# Altium integrated library balenaFin_v1_x_x.IntLib: 123 symbols (part 1 of 2)
Pins are listed as number, name and electrical type; pins without a type are passive.

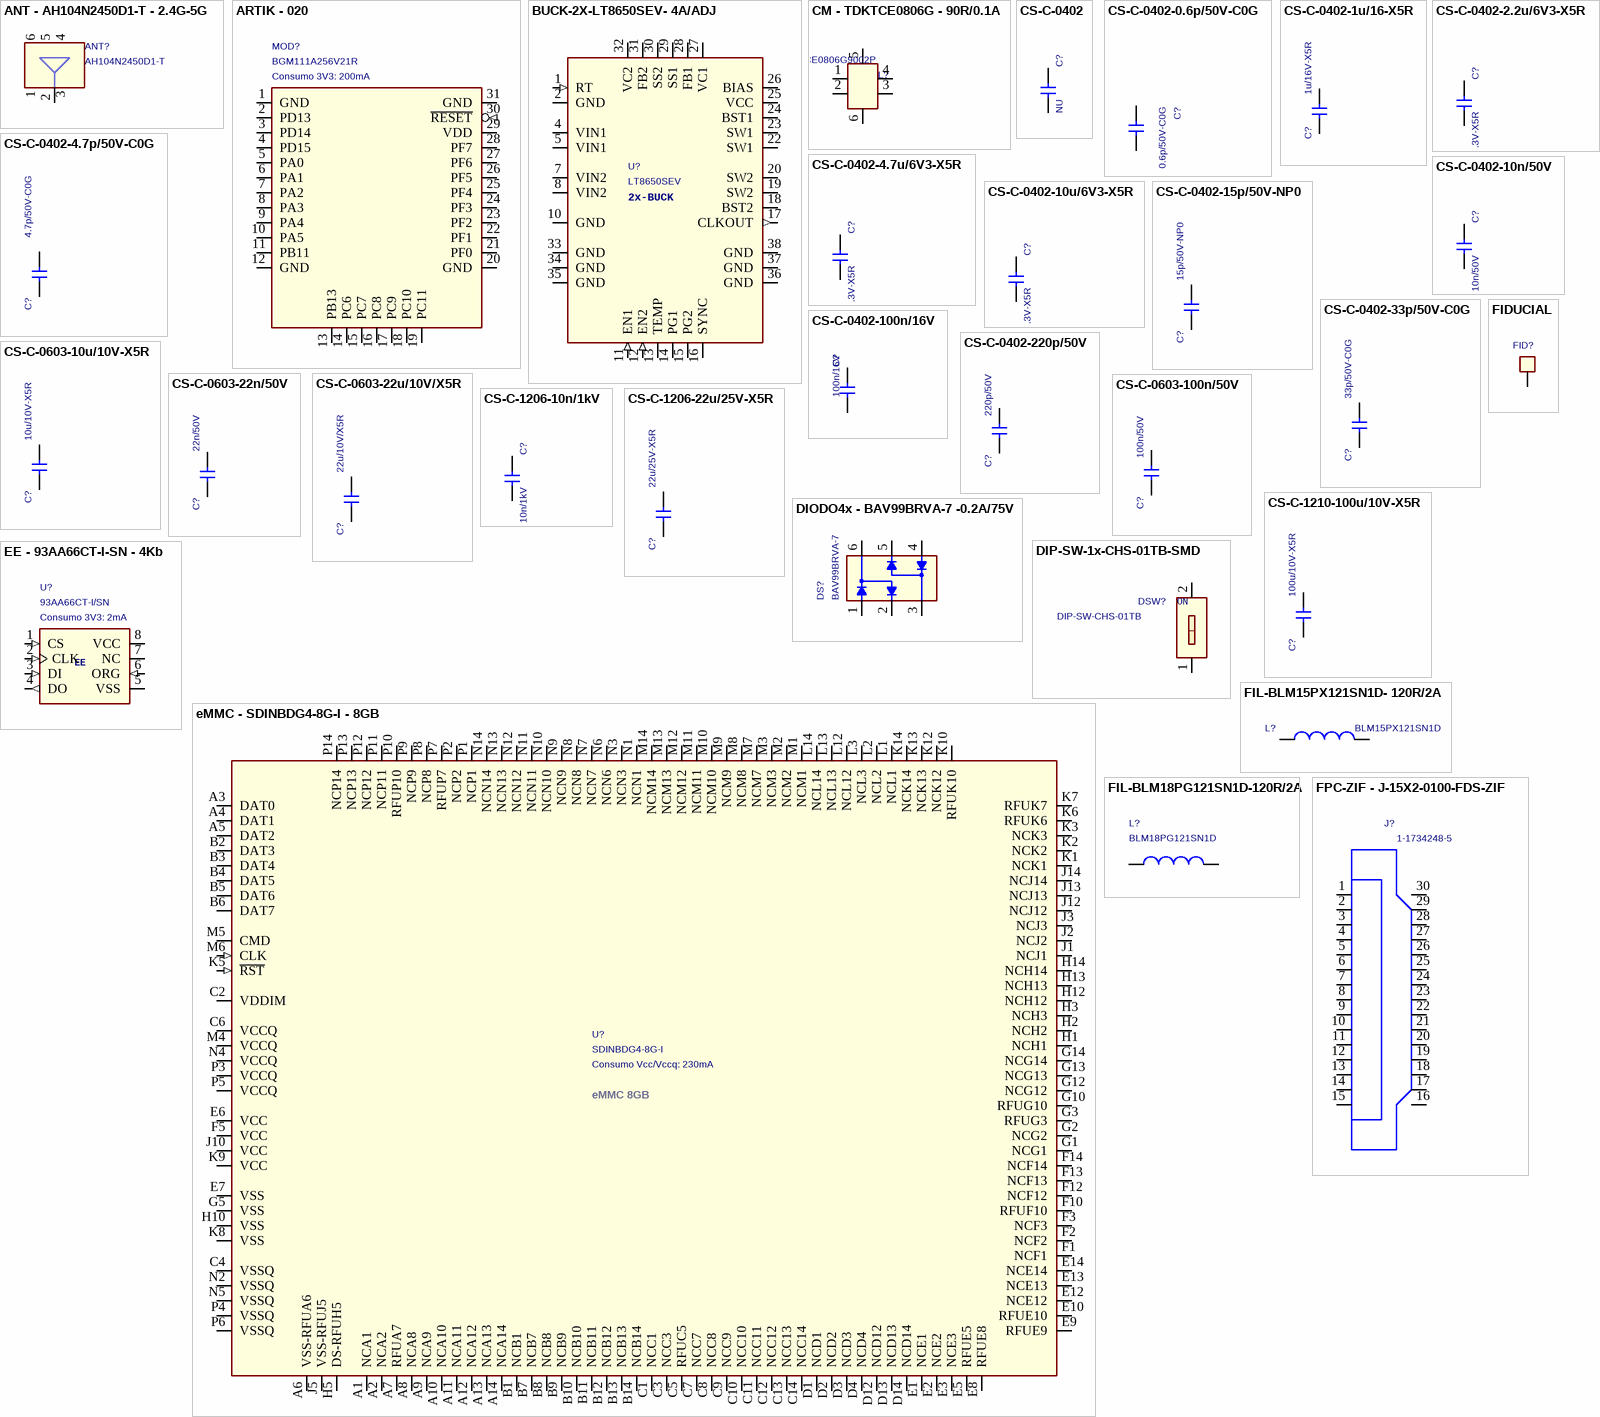
[diagram p0: symbols ANT - AH104N2450D1-T - 2.4G-5G to FPC-ZIF - J-15X2-0100-FDS-ZIF]

## ANT - AH104N2450D1-T - 2.4G-5G
designator ANT?, comment AH104N2450D1-T
ANTENNA CHIP DUAL 2.4GHZ - 5GHz D=10X4 AH104N2450D1-T TAIYO YUDEN SMT; Database: 41701; Temp Range: -40°..+85°; Pkg Type: SMD; Famiglia: INDUTTORE; Modello: ANTENNA WLAN; ROOM: WIFI-BLUETOOTH; Price Distributor Cad: 0,65; Distributor: FAE; Caratteristiche: 2.4GHz-5GHz
footprint ANT-AH104N
pins: 1, 2, 3, 4, 5, 6

## ARTIK - 020
designator MOD?, comment BGM111A256V21R  Consumo: Consumo 3V3: 200mA
MODULO BLUETOOTH SMART BGM111A256V21R SILICON LABS SMT; Modello: MCU; Note: PU_GPIO=100k - VIH=VDDx0.7 - VIL=VDDx0.3 - VOH=VDDx0.6 - VOL=VDDx0.4; Caratteristiche: BGM111; Database: 44492; Temp Range: -40°..+85°; Pkg Type: SMD; ROOM: ARTIK 020; Famiglia: MODULO; Price Distributor Cad: 4; Distributor: FAE
footprint MOD-ARTIK-020
pins: 1 GND (power), 2 PD13 (io), 3 PD14 (io), 4 PD15 (io), 5 PA0 (io), 6 PA1 (io), 7 PA2 (io), 8 PA3 (io), 9 PA4 (io), 10 PA5 (io), 11 PB11 (io), 12 GND (power), 13 PB13 (io), 14 PC6 (io), 15 PC7 (io), 16 PC8 (io), 17 PC9 (io), 18 PC10 (io), 19 PC11 (io), 20 GND (power), 21 PF0 (io), 22 PF1 (io), 23 PF2 (io), 24 PF3 (io), 25 PF4 (io), 26 PF5 (io), 27 PF6 (io), 28 PF7 (io), 29 VDD (power), 30 ~{RESET} (in), 31 GND (power)

## BUCK-2X-LT8650SEV- 4A/ADJ
designator U?, comment LT8650SEV
INTEGRATO LT8650SEV#PBF LINEAR LQFN32 SMT; Database: 41707; Temp Range: -40°..+125°; Pkg Type: SMD; Caratteristiche: 4A/ADJ; Note: 300kHz - 3MHz - VIN=3V - 42V; Modello: BUCK-2X; ROOM: POWER 5V-3V3; Price Distributor Cad: 4,33; Distributor: FAE; Famiglia: INTEGRATO
footprint IC-LT8650SEV
pins: 1 RT (in), 2 GND (power), 4 VIN1 (power), 5 VIN1 (power), 7 VIN2 (power), 8 VIN2 (power), 10 GND (power), 11 EN1 (in), 12 EN2 (in), 13 TEMP, 14 PG1 (oc), 15 PG2 (oc), 16 SYNC, 17 CLKOUT (out), 18 BST2, 19 SW2 (power), 20 SW2 (power), 22 SW1 (power), 23 SW1 (power), 24 BST1, 25 VCC, 26 BIAS, 27 VC1, 28 FB1, 29 SS1, 30 SS2, 31 FB2, 32 VC2, 33 GND (power), 34 GND (power), 35 GND (power), 36 GND (power), 37 GND (power), 38 GND (power)
text: 2x-BUCK

## CM - TDKTCE0806G - 90R/0.1A
designator L?, comment TCE0806G9002P
FILTRO 90R 0.1A 25% D=0.85x0.65 TCE0806G-900-2P-T200 TDK SMT; Famiglia: INDUTTORE; Caratteristiche: 100mA; Note: ESD Protection Inside; Modello: CM-CHOKE; Pkg Type: SMD; Database: 37690; ROOM: CAMERA CSI; Distributor: FAE; Price Distributor Cad: 0,37
footprint LS-TDKTCE0806G
pins: 1, 2, 3, 4, 5 (power), 6 (power)

## CS-C-0402
designator C?, comment NU
Condensatore 0402; Modello: CERAMICO; Pkg Type: SMD; Famiglia: CONDENSATORE
footprint CS-C-0402
pins: 1, 2

## CS-C-0402-0.6p/50V-C0G
designator C?, comment 0.6p/50V-C0G
CHIP CAP.CER. 0.6pF 50V ±0.1pF C0G 0402; ROOM: WIFI-BLUETOOTH; Pkg Type: SMD; Temp Range: -55°..+125°; Database: 41047; Modello: CERAMICO; Note: RF; Famiglia: CONDENSATORE; Price Distributor Cad: 0,0066; Distributor: FAE; Caratteristiche: C0G
footprint CS-C-0402
pins: 1, 2

## CS-C-0402-1u/16-X5R
designator C?, comment 1u/16V-X5R
CHIP CAP.CER. 1uF 16V 10% X5R 0402; Database: 37485; Pkg Type: SMD; Modello: CERAMICO; Famiglia: CONDENSATORE; ROOM: POWER 1V5; Distributor: FAE; Price Distributor Cad: 0,0016; Caratteristiche: X5R
footprint CS-C-0402
pins: 1, 2

## CS-C-0402-2.2u/6V3-X5R
designator C?, comment 2.2u/6.3V-X5R
CHIP CAP.CER. 2.2uF 6.3V 20% X5R 0402; ROOM: eMMC; Database: 32467; Pkg Type: SMD; Modello: CERAMICO; Famiglia: CONDENSATORE; Distributor: FAE; Price Distributor Cad: 0,0035; Caratteristiche: X5R
footprint CS-C-0402
pins: 1, 2

## CS-C-0402-4.7p/50V-C0G
designator C?, comment 4.7p/50V-C0G
CHIP CAP.CER. 4.7pF 50V 5% C0G 0402; Famiglia: CONDENSATORE; Modello: CERAMICO; Database: 41702; Temp Range: -55°..+125°; Pkg Type: SMD; ROOM: POWER 5V-3V3; Caratteristiche: C0G; Distributor: FAE; Price Distributor Cad: 0,0025
footprint CS-C-0402
pins: 1, 2

## CS-C-0402-4.7u/6V3-X5R
designator C?, comment 4.7u/6.3V-X5R
CHIP CAP.CER. 4.7uF 6.3V 20% X5R 0402; Database: 32468; Pkg Type: SMD; Modello: CERAMICO; Famiglia: CONDENSATORE; ROOM: ETHERNET+HUB USB; Distributor: FAE; Price Distributor Cad: 0,01; Caratteristiche: X5R
footprint CS-C-0402
pins: 1, 2

## CS-C-0402-10n/50V
designator C?, comment 10n/50V
CHIP CAP.CER. 10nF 50V 10% X7R 0402; ROOM: CM3L; Pkg Type: SMD; Database: 21365; Modello: CERAMICO; Famiglia: CONDENSATORE; Price Distributor Cad: 0,001; Distributor: FAE; Caratteristiche: X7R
footprint CS-C-0402
pins: 1, 2

## CS-C-0402-10u/6V3-X5R
designator C?, comment 10u/6.3V-X5R
CHIP CAP.CER. 10uF 6.3V 20% X5R 0402; Database: 39310; Temp Range: -55°..+85°; Pkg Type: SMD; Modello: CERAMICO; Famiglia: CONDENSATORE; ROOM: CM3L; Distributor: FAE; Price Distributor Cad: 0,0141; Caratteristiche: X5R
footprint CS-C-0402
pins: 1, 2

## CS-C-0402-15p/50V-NP0
designator C?, comment 15p/50V-NP0
CHIP CAP.CER. 15pF 50V 5% NPO 0402; Famiglia: CONDENSATORE; Caratteristiche: NP0; Modello: CERAMICO; Database: 25120; Pkg Type: SMD; ROOM: ETHERNET+HUB USB; Distributor: FAE; Price Distributor Cad: 0,0018
footprint CS-C-0402
pins: 1, 2

## CS-C-0402-33p/50V-C0G
designator C?, comment 33p/50V-C0G
CHIP CAP.CER. 33pF 50V 5% C0G 0402; ROOM: NANO-SIM; Pkg Type: SMD; Database: 38594; Modello: CERAMICO; Famiglia: CONDENSATORE; Price Distributor Cad: 0,0018; Distributor: FAE; Caratteristiche: C0G
footprint CS-C-0402
pins: 1, 2

## CS-C-0402-100n/16V
designator C?, comment 100n/16V
CHIP CAP.CER. 100nF 16V 10% X7R 0402; ROOM: HDMI; Pkg Type: SMD; Database: 22452; Modello: CERAMICO; Famiglia: CONDENSATORE; Price Distributor Cad: 0,001; Distributor: FAE; Caratteristiche: X7R
footprint CS-C-0402
pins: 1, 2

## CS-C-0402-220p/50V
designator C?, comment 220p/50V
CHIP CAP.CER. 220pF 50V 10% X7R 0402; ROOM: POWER 5V-3V3; Pkg Type: SMD; Database: 27827; Modello: CERAMICO; Famiglia: CONDENSATORE; Price Distributor Cad: 0,0012; Distributor: FAE; Caratteristiche: X7R
footprint CS-C-0402
pins: 1, 2

## CS-C-0603-10u/10V-X5R
designator C?, comment 10u/10V-X5R
CHIP CAP.CER. 10uF 10V 10% X5R 0603; Famiglia: CONDENSATORE; Modello: CERAMICO; Database: 28168; Pkg Type: SMD; ROOM: CONNETTORE HAT; Caratteristiche: X5R; Distributor: FAE; Price Distributor Cad: 0,0151
footprint CS-C-0603
pins: 1, 2

## CS-C-0603-22n/50V
designator C?, comment 22n/50V
CHIP CAP.CER. 22nF 50V 10% X7R 0603; ROOM: ETHERNET+HUB USB; Famiglia: CONDENSATORE; Modello: CERAMICO; Database: 25087; Pkg Type: SMD; Caratteristiche: X7R; Distributor: FAE; Price Distributor Cad: 0,0017
footprint CS-C-0603
pins: 1, 2

## CS-C-0603-22u/10V/X5R
designator C?, comment 22u/10V/X5R
CHIP CAP.CER. 22uF 10V 20% X5R 0603; Famiglia: CONDENSATORE; Modello: CERAMICO; Database: 40369; Temp Range: -55°..+85°; Pkg Type: SMD; ROOM: POWER 5V-3V3; Caratteristiche: X5R; Distributor: FAE; Price Distributor Cad: 0,027
footprint CS-C-0603
pins: 1, 2

## CS-C-0603-100n/50V
designator C?, comment 100n/50V
CHIP CAP.CER. 100nF 50V 10% X7R 0603; ROOM: POWER 5V-3V3; Database: 18108; Pkg Type: SMD; Modello: CERAMICO; Famiglia: CONDENSATORE; Distributor: FAE; Price Distributor Cad: 0,01; Caratteristiche: X7R
footprint CS-C-0603
pins: 1, 2

## CS-C-1206-10n/1kV
designator C?, comment 10n/1kV
CHIP CAP.CER. 10nF 1000V 10% X7R 1206; ROOM: HDMI; Database: 28470; Pkg Type: SMD; Modello: CERAMICO; Famiglia: CONDENSATORE; Distributor: FAE; Price Distributor Cad: 0,035; Caratteristiche: X7R
footprint CS-C-1206
pins: 1, 2

## CS-C-1206-22u/25V-X5R
designator C?, comment 22u/25V-X5R
CHIP CAP.CER. 22uF 25V 10% X5R 1206; ROOM: POWER 5V-3V3; Famiglia: CONDENSATORE; Modello: CERAMICO; Pkg Type: SMD; Temp Range: -55°..+85°; Database: 30650; Caratteristiche: X5R; Price Distributor Cad: 0,073; Distributor: FAE
footprint CS-C-1206
pins: 1, 2

## CS-C-1210-100u/10V-X5R
designator C?, comment 100u/10V-X5R
CHIP CAP.CER. 100UF 10V 20% X5R 1210; Pkg Type: SMD; Database: 30999; Modello: CERAMICO; Famiglia: CONDENSATORE; ROOM: USB HOST 1; Price Distributor Cad: 0,27; Distributor: FAE; Caratteristiche: X5R
footprint CS-C-1210
pins: 1, 2

## DIODO4x - BAV99BRVA-7 -0.2A/75V
designator DS?, comment BAV99BRVA-7
DIODO ARRAY 0.2A 75V BAV99BRVA-7 SOT563 DIODES SMT; ROOM: DISPLAY DSI; Modello: GENERICO; Note: 2x Serie; Caratteristiche: 4x; Pkg Type: SMD; Temp Range: -65°..+150°; Database: 40591; Famiglia: DIODO; Distributor: FAE; Price Distributor Cad: 0,044
footprint SOT563
pins: 1 A1, 2 C1, 3 AC2, 4 A2, 5 C2, 6 AC1

## DIP-SW-1x-CHS-01TB-SMD
designator DSW?, comment DIP-SW-CHS-01TB
DIP SWITCH 1P/D NERO CHS-01TB COPAL SMT; Database: 33083; Temp Range: -40°..+85°; Pkg Type: SMD; Caratteristiche: 1P; Modello: DIP-SWITCH; ROOM: WIFI-BLUETOOTH; Price Distributor Cad: 0,345; Distributor: FAE; Famiglia: SWITCH
footprint DSS-CHS-01TB
pins: 1, 2
text: ON

## EE - 93AA66CT-I-SN - 4Kb
designator U?, comment 93AA66CT-I/SN  Consumo: Consumo 3V3: 2mA
INTEGRATO 93AA66CT-I/SN SOIC8 MICROCHIP SMT; Pkg Type: SMD; Temp Range: -40°..+85°; Database: 40297; Modello: EEPROM -uWIRE; Note: VIH=2V - VIL=0.8V - VOL=0.4; Caratteristiche: 4kbit; ROOM: ETHERNET+HUB USB; Distributor: FAE; Price Distributor Cad: 0,095; Famiglia: INTEGRATO
footprint SOIC8
pins: 1 CS (in), 2 CLK (in), 3 DI (in), 4 DO (out), 5 VSS (power), 6 ORG (in), 7 NC, 8 VCC (power)
text: EE

## eMMC - SDINBDG4-8G-I - 8GB
designator U?, comment SDINBDG4-8G-I  Consumo: Consumo Vcc/Vccq: 230mA
INTEGRATO SDINBDG4-8G SANDISK VFBGA153 SMT; Caratteristiche: 8Gbit; Database: 41705; Modello: eMMC; Note: Standard 5.1 - VCC=2.7V-3.6V - VCCQ=1.7V-1.95V/2.7V-3.6V; Pkg Type: SMD; Temp Range: -25°..+85°; Distributor: FAE; Famiglia: INTEGRATO; Price Distributor Cad: 4,24; ROOM: eMMC
footprint VFBGA153
pins: A1 NCA1, A2 NCA2, A3 DAT0 (io), A4 DAT1 (io), A5 DAT2 (io), A6 VSS-RFUA6, A7 RFUA7, A8 NCA8, A9 NCA9, A10 NCA10, A11 NCA11, A12 NCA12, A13 NCA13, A14 NCA14, B1 NCB1, B2 DAT3 (io), B3 DAT4 (io), B4 DAT5 (io), B5 DAT6 (io), B6 DAT7 (io), B7 NCB7, B8 NCB8, B9 NCB9, B10 NCB10, B11 NCB11, B12 NCB12, B13 NCB13, B14 NCB14, C1 NCC1, C2 VDDIM, C3 NCC3, C4 VSSQ (power), C5 RFUC5, C6 VCCQ (power), C7 NCC7, C8 NCC8, C9 NCC9, C10 NCC10, C11 NCC11, C12 NCC12, C13 NCC13, C14 NCC14, D1 NCD1, D2 NCD2, D3 NCD3, D4 NCD4, D12 NCD12, D13 NCD13, D14 NCD14, E1 NCE1, E2 NCE2, E3 NCE3, E5 RFUE5, E6 VCC (power), E7 VSS (power), E8 RFUE8, E9 RFUE9, E10 RFUE10, E12 NCE12, E13 NCE13, E14 NCE14, F1 NCF1, F2 NCF2, F3 NCF3, F5 VCC (power), F10 RFUF10, F12 NCF12, F13 NCF13, F14 NCF14, G1 NCG1, G2 NCG2, G3 RFUG3, G5 VSS (power), G10 RFUG10, G12 NCG12, G13 NCG13, G14 NCG14, H1 NCH1, H2 NCH2, H3 NCH3, H5 DS-RFUH5, H10 VSS (power), H12 NCH12, H13 NCH13, H14 NCH14, J1 NCJ1, J2 NCJ2, J3 NCJ3, J5 VSS-RFUJ5, J10 VCC (power), J12 NCJ12, J13 NCJ13, J14 NCJ14, K1 NCK1, K2 NCK2, K3 NCK3, K5 ~{RST} (in), K6 RFUK6, K7 RFUK7, K8 VSS (power), K9 VCC (power), K10 RFUK10, K12 NCK12, K13 NCK13, K14 NCK14, L1 NCL1, L2 NCL2, L3 NCL3, L12 NCL12, L13 NCL13, L14 NCL14, M1 NCM1, M2 NCM2, M3 NCM3, M4 VCCQ (power), M5 CMD (io), M6 CLK (in), M7 NCM7, M8 NCM8, M9 NCM9, M10 NCM10, M11 NCM11, M12 NCM12, M13 NCM13, M14 NCM14, N1 NCN1, N2 VSSQ (power), N3 NCN3, N4 VCCQ (power), N5 VSSQ (power), N6 NCN6, N7 NCN7, N8 NCN8, N9 NCN9, N10 NCN10, N11 NCN11, N12 NCN12, N13 NCN13, N14 NCN14, P1 NCP1, P2 NCP2, P3 VCCQ (power), P4 VSSQ (power), P5 VCCQ (power), P6 VSSQ (power), P7 RFUP7, P8 NCP8, P9 NCP9, P10 RFUP10, P11 NCP11, P12 NCP12, P13 NCP13, P14 NCP14
text: eMMC 8GB

## FIDUCIAL
designator FID?, comment TPS  (value not drawn)
FIDUCIAL; Pkg Type: SMD; Distributor: FAE
footprint FIDUCIAL
pins: 1 TP

## FIL-BLM15PX121SN1D- 120R/2A
designator L?, comment BLM15PX121SN1D
FERRITE 120R 2A 25% 0402 BLM15PX121SN1D MURATA SMT; ROOM: HDMI; Pkg Type: SMD; Temp Range: -55°..+125°; Database: 39322; Caratteristiche: 120R/2A; Famiglia: INDUTTORE; Distributor: FAE; Price Distributor Cad: 0,0067; Modello: FERRITE
footprint LS-0402
pins: 1, 2

## FIL-BLM18PG121SN1D-120R/2A
designator L?, comment BLM18PG121SN1D
FILTRO 120R 2A 25% 0603 BLM18PG121SN1D MURATA SMT; Pkg Type: SMD; Database: 22205; Modello: FERRITE; Caratteristiche: 120R/2A; Famiglia: INDUTTORE; ROOM: ETHERNET+HUB USB; Distributor: FAE; Price Distributor Cad: 0,0055
footprint LS-0603
pins: 1, 2

## FPC-ZIF - J-15X2-0100-FDS-ZIF
designator J?, comment 1-1734248-5
CONN. FPC 30P DOPPIA FILA F/D 1-1734248-5 P=1 TE SMT; Database: 41048; Temp Range: -20°..+85°; Pkg Type: SMD; Famiglia: CONNETTORE; Caratteristiche: 15x2P; Modello: FPC-ZIF; ROOM: CAMERA CSI; Price Distributor Cad: 0,315; Distributor: FAE
footprint J-15X2-0100-FDS-ZIF
pins: 1, 2, 3, 4, 5, 6, 7, 8, 9, 10, 11, 12, 13, 14, 15, 16, 17, 18, 19, 20, 21, 22, 23, 24, 25, 26, 27, 28, 29, 30

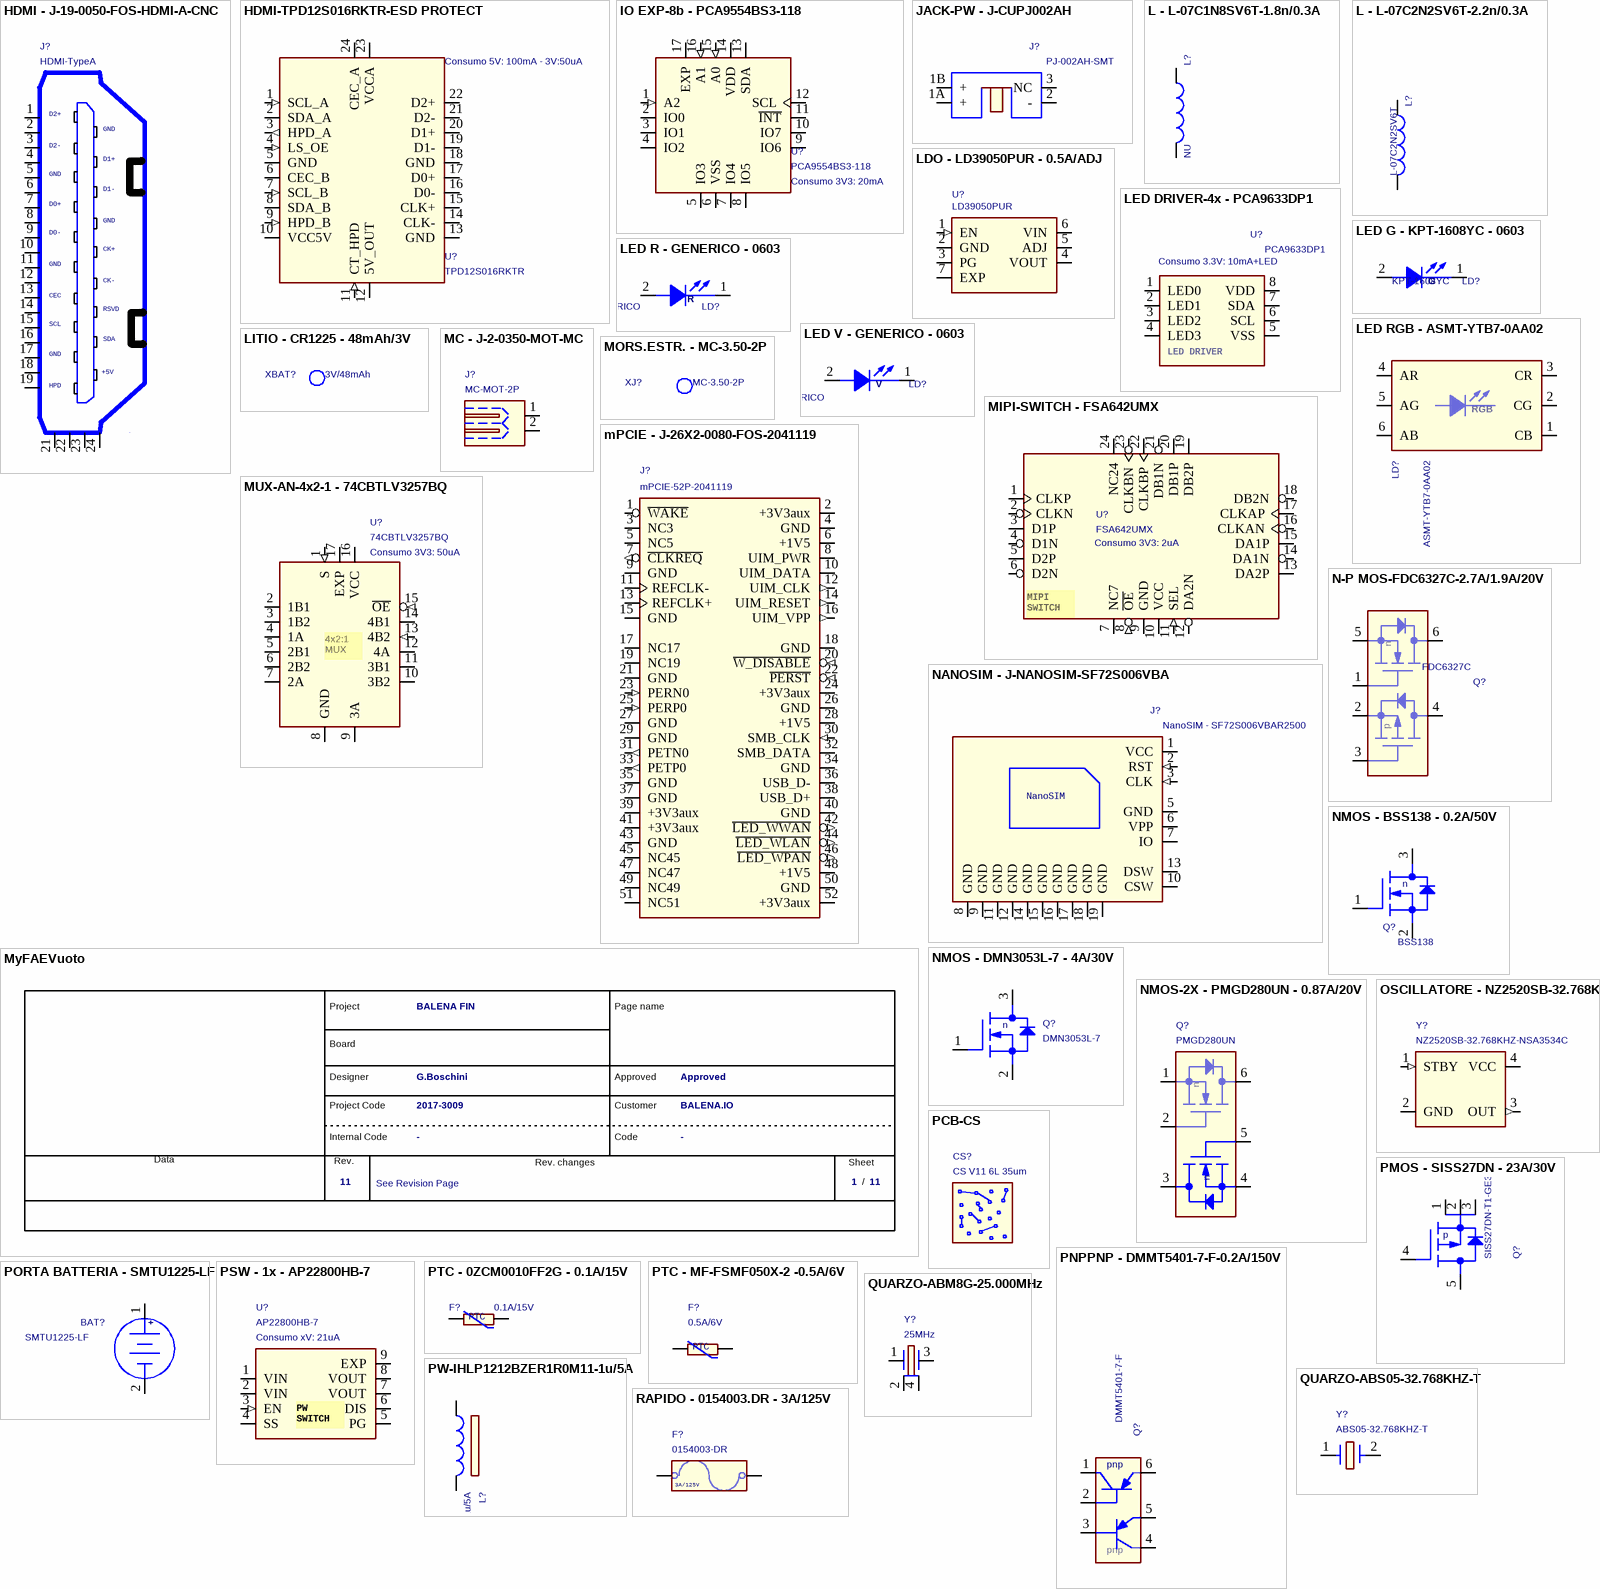
[diagram p1: symbols HDMI - J-19-0050-FOS-HDMI-A-CNC to RAPIDO - 0154003.DR - 3A/125V]

## HDMI - J-19-0050-FOS-HDMI-A-CNC
designator J?, comment HDMI-TypeA
CONN. HDMI 19P F/90° 2000-1-2-41-00-BK CNC TECH SMT; Note: Full SMD; Caratteristiche: TYPE-A; Famiglia: CONNETTORE; Pkg Type: SMD; Temp Range: -20°..+85°; Database: 41703; ROOM: HDMI; Modello: HDMI; Distributor: FAE; Price Distributor Cad: 0,608
footprint J-19-0050-FOS-HDMI-A-CNCTECH
pins: 1 D2+, 2 GND_2 (power), 3 D2-, 4 D1+, 5 GND_5 (power), 6 D1-, 7 D0+, 8 GND_8 (power), 9 D0-, 10 CK+, 11 GND_11 (power), 12 CK-, 13 CEC, 14 RES, 15 SCL, 16 SDA, 17 GND_17 (power), 18 +5V (power), 19 HDP, 21 GND_21 (power), 22 GND_22 (power), 23 GND_23 (power), 24 GND_24 (power)
text: GND; RSVD; HPD

## HDMI-TPD12S016RKTR-ESD PROTECT
designator U?, comment TPD12S016RKTR  Consumo: Consumo 5V: 100mA - 3V:50uA
INTEGRATO TPD12S016RKTR TEXAS UQFN24 SMT; ROOM: HDMI; Modello: HDMI-ESD; Database: 39340; Temp Range: -40° - +85°; Pkg Type: SMD; Famiglia: INTEGRATO; Price Distributor Cad: 0,458; Distributor: FAE
footprint UFQFN24-4X2
pins: 1 SCL_A (in), 2 SDA_A (io), 3 HPD_A (out), 4 LS_OE (in), 5 GND (power), 6 CEC_B (io), 7 SCL_B (in), 8 SDA_B (io), 9 HPD_B (in), 10 VCC5V (power), 11 CT_HPD (in), 12 5V_OUT (power), 13 GND (power), 14 CLK-, 15 CLK+, 16 D0-, 17 D0+, 18 GND (power), 19 D1-, 20 D1+, 21 D2-, 22 D2+, 23 VCCA (power), 24 CEC_A (io)

## IO EXP-8b - PCA9554BS3-118
designator U?, comment PCA9554BS3-118  Consumo: Consumo 3V3: 20mA
INTEGRATO PCA9554BS3-118 VFQFN16 NXP SMT; ROOM: IO-EXPANDER; Note: Full Bidirectional; Caratteristiche: 8x; Pkg Type: SMD; Temp Range: -40°..+85°; Database: 38904; Modello: IO-EXPANDER; Famiglia: INTEGRATO; Distributor: FAE; Price Distributor Cad: 0,405
footprint QFN16-EXP-3X3
pins: 1 A2 (in), 2 IO0 (io), 3 IO1 (io), 4 IO2 (io), 5 IO3 (io), 6 VSS (power), 7 IO4 (io), 8 IO5 (io), 9 IO6 (io), 10 IO7 (io), 11 ~{INT} (oc), 12 SCL (oc), 13 SDA (oc), 14 VDD (power), 15 A0 (in), 16 A1 (in), 17 EXP (power)

## JACK-PW - J-CUPJ002AH
designator J?, comment PJ-002AH-SMT
CONN. POWER JACK F/90° PJ-002AH-SMT-TR CUI SMT; Database: 35714; Pkg Type: SMD; Famiglia: CONNETTORE; Caratteristiche: ID=2.1mm OD=5.5mm; ROOM: POWER IN; Price Distributor Cad: 0,476; Distributor: FAE; Modello: JACK
footprint J-CUPJ002AH
pins: 1A + (power), 1B + (power), 2 - (power), 3 NC

## L - L-07C1N8SV6T-1.8n/0.3A
designator L?, comment NU
INDUTTANZA 1.8nH 0.3A 14% 0402 L-07C1N8SV6T JOHANSON TECHNOLOGY SMT; Database: 40597; Temp Range: -40°..+100°; Pkg Type: SMD; Famiglia: INDUTTORE; Caratteristiche: 300mA; ROOM: WIFI-BLUETOOTH; Price Distributor Cad: 0,031; Distributor: FAE; Modello: INDUTTANZA
footprint LS-0402
pins: 1 C, 2 A

## L - L-07C2N2SV6T-2.2n/0.3A
designator L?, comment L-07C2N2SV6T
INDUTTANZA 2.2nH 0.3A 14% 0402 L-07C2N2SV6T JOHANSON TECHNOLOGY SMT; Database: 41050; Temp Range: -40°..+100°; Pkg Type: SMD; Famiglia: INDUTTORE; Caratteristiche: 300mA; ROOM: WIFI-BLUETOOTH; Price Distributor Cad: 0,01; Distributor: FAE; Modello: INDUTTANZA
footprint LS-0402
pins: 1 C, 2 A

## LDO - LD39050PUR - 0.5A/ADJ
designator U?, comment LD39050PUR
INTEGRATO LD39050PUR ST DFN6 SMT; Database: 39349; Temp Range: -40°..+125°; Pkg Type: SMD; Caratteristiche: 500mA/ADJ; Modello: LDO; ROOM: POWER 1V8; Price Distributor Cad: 0,295; Distributor: FAE; Famiglia: INTEGRATO
footprint DFN6_3X3_STM-L
pins: 1 EN (in), 2 GND (power), 3 PG, 4 VOUT (power), 5 ADJ, 6 VIN (power), 7 EXP (power)

## LED DRIVER-4x - PCA9633DP1
designator U?, comment PCA9633DP1  Consumo: Consumo 3.3V: 10mA+LED
INTEGRATO PCA9633DP1,118 TSSOP8 NXP SMT; Caratteristiche: 3x; Database: 44009; Modello: LED DRIVER; Note: VCC=2.3V-5.5V - VIH-I2C=0.7*VDD-5.5V; Pkg Type: SMD; Temp Range: -40°..+85°; Distributor: FAE; Famiglia: INTEGRATO; Price Distributor Cad: 0,42
footprint MSOP8
pins: 1 LED0 (oc), 2 LED1 (oc), 3 LED2 (oc), 4 LED3 (oc), 5 VSS (power), 6 SCL (oc), 7 SDA (oc), 8 VDD (power)

## LED G - KPT-1608YC - 0603
designator LD?, comment KPT-1608YC
DIODO LED GIALLO KPT-1608YC KINBRIGHT 0603 SMT; Pkg Type: SMD; Database: 37440; Note: V=2.1v/20mA; ROOM: ETHERNET+HUB USB; Distributor: FAE; Price Distributor Cad: 0,025; Modello: LED; Caratteristiche: GIALLO; Famiglia: DIODO
footprint LD-0603
pins: 1 C, 2 A
text: G

## LED R - GENERICO - 0603
designator LD?, comment GENERICO
DIODO LED ROSSO 0603 SMT; Pkg Type: SMD; Database: 15407; Note: 2V/20mA; ROOM: POWER LED; Distributor: FAE; Price Distributor Cad: 0,025; Modello: LED; Caratteristiche: ROSSO; Famiglia: DIODO
footprint LD-0603
pins: 1 C, 2 A
text: R

## LED RGB - ASMT-YTB7-0AA02
designator LD?, comment ASMT-YTB7-0AA02
DIODO LED RGB ASMT-YTB7-0AA02 AVAGO PLCC6 SMT; ROOM: LED RGB; Note: VFR=2.1V@20mA - VFG=VFB=3.1V@20mA; Pkg Type: SMD; Database: 35119; Modello: LED; Caratteristiche: RGB; Famiglia: DIODO; Distributor: FAE; Price Distributor Cad: 0,2765
footprint LD-PLCC6-GUIDAVLP
pins: 1 CB, 2 CG, 3 CR, 4 AR, 5 AG, 6 AB

## LED V - GENERICO - 0603
designator LD?, comment GENERICO
DIODO LED VERDE 0603 SMT; Pkg Type: SMD; Database: 27046; Note: V=2.2V/20mA; ROOM: CM3L; Distributor: FAE; Price Distributor Cad: 0,021; Famiglia: DIODO; Caratteristiche: VERDE; Modello: LED
footprint LD-0603
pins: 1 C, 2 A
text: V

## LITIO - CR1225 - 48mAh/3V
designator XBAT?, comment 3V/48mAh  (mechanical)
BATTERIA 3V 48mAh LITIO Ø=12.5 (-30 / +70°C) CR1225; Caratteristiche: 48mAh/3V; Database: 29901; Pkg Type: THT; ROOM: RTC; Temp Range: -30°..+70°; Distributor: FAE; Famiglia: BATTERIA; Modello: LITIO; Price Distributor Cad: 0,22

## MC - J-2-0350-MOT-MC
designator J?, comment MC-MOT-2P
MORS. C.S. 2P M/90° MC 1.5/2G-3.5 NERO P=3.5 1920943 PHOENIX; Pkg Type: THT; Database: 41929; Famiglia: CONNETTORE; ROOM: POWER IN; Distributor: FAE; Price Distributor Cad: 0,66; Modello: MC; Caratteristiche: 2P
footprint J-2-0350-MOT-MC
pins: 1, 2

## MIPI-SWITCH - FSA642UMX
designator U?, comment FSA642UMX  Consumo: Consumo 3V3: 2uA
INTEGRATO FSA642UMX ONSEMI UMLP24 SMT; Caratteristiche: 2A1; Database: 44010; Modello: MIPI SWITCH; Note: Up to 1GHz; Pkg Type: SMD; Temp Range: -40°..85°; Distributor: FAE; Famiglia: INTEGRATO; Price Distributor Cad: 0,241
footprint UFQFN24-0250X0340
pins: 1 CLKP (io), 2 CLKN (io), 3 D1P (io), 4 D1N (io), 5 D2P (io), 6 D2N (io), 7 NC7, 8 ~{OE} (in), 9 GND (power), 10 VCC (power), 11 SEL (in), 12 DA2N (io), 13 DA2P (io), 14 DA1N (io), 15 DA1P (io), 16 CLKAN (io), 17 CLKAP (io), 18 DB2N (io), 19 DB2P (io), 20 DB1P (io), 21 DB1N (io), 22 CLKBP (io), 23 CLKBN (io), 24 NC24
text: MIPI / SWITCH

## MORS.ESTR. - MC-3.50-2P
designator XJ?, comment MC-3.50-2P  (mechanical)
MORS. ESTR. 2P MC 1.5/2ST-3.5 BK P=3.50 1916384 PHOENIX; Pkg Type: THT; Database: 41931; ROOM: POWER IN; Distributor: FAE; Price Distributor Cad: 1,37

## mPCIE - J-26X2-0080-FOS-2041119
designator J?, comment mPCIE-52P-2041119
CONN. mPCIE 52P F/O P=0.8 2041119-1 TE SMT; Pkg Type: SMD; Temp Range: -55°..+85°; Database: 40594; Famiglia: CONNETTORE; Caratteristiche: 26x2P; Note: 0.5A/50VAC; Distributor: FAE; Price Distributor Cad: 0,253; Modello: mPCIE; ROOM: mPCIE
footprint J-26X2-0080-FOS-2041119
pins: 1 ~{WAKE}, 2 +3V3aux (power), 3 NC3, 4 GND (power), 5 NC5, 6 +1V5 (power), 7 ~{CLKREQ} (out), 8 UIM_PWR (power), 9 GND (power), 10 UIM_DATA (io), 11 REFCLK- (io), 12 UIM_CLK (out), 13 REFCLK+ (io), 14 UIM_RESET (out), 15 GND (power), 16 UIM_VPP (out), 17 NC17, 18 GND (power), 19 NC19, 20 ~{W_DISABLE} (in), 21 GND (power), 22 ~{PERST} (in), 23 PERN0 (in), 24 +3V3aux (power), 25 PERP0 (in), 26 GND (power), 27 GND (power), 28 +1V5 (power), 29 GND (power), 30 SMB_CLK (in), 31 PETN0 (out), 32 SMB_DATA (io), 33 PETP0 (out), 34 GND (power), 35 GND (power), 36 USB_D- (io), 37 GND (power), 38 USB_D+ (io), 39 +3V3aux (power), 40 GND (power), 41 +3V3aux (power), 42 ~{LED_WWAN} (out), 43 GND (power), 44 ~{LED_WLAN} (out), 45 NC45, 46 ~{LED_WPAN} (out), 47 NC47, 48 +1V5 (power), 49 NC49, 50 GND (power), 51 NC51, 52 +3V3aux (power)

## MUX-AN-4x2-1 - 74CBTLV3257BQ
designator U?, comment 74CBTLV3257BQ  Consumo: Consumo 3V3: 50uA
INTEGRATO 74CBTLV3257BQ,115 NEXPERIA DHVQFN16 SMT; Caratteristiche: 4X 2A1; Database: 44011; Modello: ANAL-MUX-DEMUX; Pkg Type: SMD; Temp Range: -40°..125°; Distributor: FAE; Famiglia: INTEGRATO; Price Distributor Cad: 0,121
footprint VFQFN16-EXP-0250X0300
pins: 1 S (in), 2 1B1 (io), 3 1B2 (io), 4 1A (io), 5 2B1 (io), 6 2B2 (io), 7 2A (io), 8 GND (power), 9 3A (io), 10 3B2 (io), 11 3B1 (io), 12 4A (io), 13 4B2 (in), 14 4B1 (io), 15 ~{OE} (in), 16 VCC (power), 17 EXP
text: 4x2:1 / MUX

## MyFAEVuoto
designator *??  Revision: 11  FAE RD code: 2017-3009  DocumentoRev: See Revision Page  Page Number: 1  Nome Progetto: BALENA FIN  Customer name: BALENA.IO  Project manager: Approved  Project designer: G.Boschini  (hidden comment: MyFAEVuoto)  (graphical)
Page Count: 11; Customer Code: -; Database: -
text: Project; Page name; Board; Designer; Project Code; Customer; Internal Code; Code; Data; Rev.; Rev. changes; Sheet; /

## N-P MOS-FDC6327C-2.7A/1.9A/20V
designator Q?, comment FDC6327C
TRANSISTOR MOSFET N/P FDC6327C SUPER SOT6 SMT; ROOM: SWITCH-PW-5V; Modello: NMOS-PMOS; Caratteristiche: 2.7A/1.9A/20V; Database: 22212; Pkg Type: SMD; Temp Range: -55°..+150°; Famiglia: TRANSISTOR; Distributor: FAE; Price Distributor Cad: 0,065
footprint SOT23-6-DBV
pins: 1 G2, 2 S1, 3 G1, 4 D1, 5 S2, 6 D2
text: n; p

## NANOSIM - J-NANOSIM-SF72S006VBA
designator J?, comment NanoSIM - SF72S006VBAR2500
CONN. NANOSIM 8P F/90° PUSH-PUSH SF72S006VBAR2500 JAE ELECTRONICS SMT; Famiglia: CONNETTORE; Database: 41049; Temp Range: -25°..+85°; Pkg Type: SMD; ROOM: NANO-SIM; Modello: NanoSIM; Price Distributor Cad: 0,7511; Distributor: FAE
footprint J-NANOSIM-SF72S006VBA
pins: 1 VCC (power), 2 RST (in), 3 CLK (in), 5 GND (power), 6 VPP, 7 IO (io), 8 GND (power), 9 GND (power), 10 CSW, 11 GND (power), 12 GND (power), 13 DSW, 14 GND (power), 15 GND (power), 16 GND (power), 17 GND (power), 18 GND (power), 19 GND (power)

## NMOS - BSS138 - 0.2A/50V
designator Q?, comment BSS138
TRANSISTOR MOSFET N BSS138 SOT-23 SMT; ROOM: HDMI; Modello: NMOS; Caratteristiche: 200mA/50V; Database: 17269; Pkg Type: SMD; Famiglia: TRANSISTOR; Distributor: FAE; Price Distributor Cad: 0,0142
footprint SOT23
pins: 1 G, 2 S, 3 D
text: n

## NMOS - DMN3053L-7 - 4A/30V
designator Q?, comment DMN3053L-7
TRANSISTOR MOSFET N DMN3053L-7 SOT-23 SMT; Caratteristiche: 4A/30V; Modello: NMOS; Database: 40007; Pkg Type: SMD; Temp Range: -55°..+150°; Famiglia: TRANSISTOR; Distributor: FAE; Price Distributor Cad: 0,241
footprint SOT23
pins: 1 G, 2 S, 3 D
text: n

## NMOS-2X - PMGD280UN - 0.87A/20V
designator Q?, comment PMGD280UN
TRANSISTOR MOSFET N PMGD280UN,115 TSSOP6 NXP SMT; Temp Range: -55°..+150°; Pkg Type: SMD; Database: 41930; Caratteristiche: 0.87A/20V-x2; Note: Vth=0.7V - Rds=0.4ohm; Modello: NMOS; ROOM: I2C-ISOLATOR; Price Distributor Cad: 0,122; Distributor: FAE; Famiglia: TRANSISTOR
footprint SOT363
pins: 1 S1, 2 G1, 3 D2, 4 S2, 5 G2, 6 D1
text: n

## OSCILLATORE - NZ2520SB-32.768K
designator Y?, comment NZ2520SB-32.768KHZ-NSA3534C
OSCILLATORE 32.768kHz 15pF 1.8V 30ppm D=2.5x2  NZ2520SB-32.768KHZ-NSA3534C NDK-AMERICA SMT; Database: 41813; Temp Range: -40°..+85°; Pkg Type: SMD; Famiglia: CLOCK; ROOM: WIFI-BLUETOOTH; Price Distributor Cad: 0,496; Distributor: FAE; Caratteristiche: 32.768kHz; Modello: OSCILLATORE
footprint Y-NZ2520S
pins: 1 STBY (in), 2 GND (power), 3 OUT (out), 4 VCC (power)

## PCB-CS
designator CS?, comment CS V11 6L 35um  (graphical)
C.S. BALENAFIN V11 (90x90)mm ENIG 8L/SO(NERO)/SR sp=1.6mm Cu=35um; Famiglia: CIRCUITO STAMPATO; Caratteristiche: 20173009_BALENA-FIN_V11; Note: G.Boschini; Modello: BALENA; Price Distributor Cad: 0; Distributor: WE-ONLINE

## PMOS - SISS27DN - 23A/30V
designator Q?, comment SISS27DN-T1-GE3
TRANSISTOR MOSFET P SISS27DN-T1-GE3 POWERPACK-1212-8S SMT; Temp Range: -65°..+150°; Pkg Type: SMD; Database: 41716; Caratteristiche: 23A/30V; Modello: PMOS; ROOM: POWER 5V-3V3; Price Distributor Cad: 0,268; Distributor: FAE; Famiglia: TRANSISTOR
footprint POWERVDFN8-0330X0330
pins: 1 S_1, 2 S_2, 3 S_3, 4 G, 5 D_5
text: p

## PNPPNP - DMMT5401-7-F-0.2A/150V
designator Q?, comment DMMT5401-7-F
INTEGRATO DMMT5401-7-F SOT26 DIODES SMT; ROOM: POWER 5V-3V3; Modello: PNP-PNP; Caratteristiche: 200mA/150V; Famiglia: TRANSISTOR; Database: 41704; Temp Range: -55°..+150°; Pkg Type: SMD; Price Distributor Cad: 0,06; Distributor: FAE
footprint SOT23-6L
pins: 1 C1, 2 B1, 3 B2, 4 C2, 5 E2, 6 E1
text: pnp

## PORTA BATTERIA - SMTU1225-LF
designator BAT?, comment SMTU1225-LF
PORTA BATTERIA SMTU 1225-1-LF RENATA; ROOM: RTC; Caratteristiche: CR1225; Database: 28981; Temp Range: -40°..+100°; Pkg Type: SMD; Famiglia: BATTERIA; Modello: PORTA BATTERIA; Price Distributor Cad: 0,388; Distributor: FAE
footprint BAT-SMTU1225
pins: 1 +, 2 -

## PSW - 1x - AP22800HB-7
designator U?, comment AP22800HB-7  Consumo: Consumo xV: 21uA
INTEGRATO AP22800HB-7 U-DFN2116-8 DIODES SMT; Database: 41052; Temp Range: -40°..+85°; Pkg Type: SMD; Caratteristiche: 4A; Note: 1.5 -5.5V - 16mOHM; Modello: HS POWER SWITCH; ROOM: SWITCH-PW-3V3; Price Distributor Cad: 0,072; Distributor: FAE; Famiglia: INTEGRATO
footprint UFDFN8-EXP-0210X0160
pins: 1 VIN (power), 2 VIN (power), 3 EN (in), 4 SS, 5 PG (oc), 6 DIS (power), 7 VOUT (power), 8 VOUT (power), 9 EXP
text: PW / SWITCH

## PTC - 0ZCM0010FF2G - 0.1A/15V
designator F?, comment 0.1A/15V
FUSIBILE RIPRIST. 0.1A 15V 0603 0ZCM0010FF2G BEL FUSE SMT; Database: 40053; Temp Range: -40°..+85°; Pkg Type: SMD; Modello: PTC; Note: Ihold=250mA; Caratteristiche: 100mA/15V; ROOM: MCU CONNECTOR; Price Distributor Cad: 0,04; Distributor: FAE; Famiglia: FUSIBILE
footprint FS-0603
pins: 1, 2

## PTC - MF-FSMF050X-2 -0.5A/6V
designator F?, comment 0.5A/6V
FUSIBILE RIPRIST. 0.5A 6V 0603 MF-FSMF050X-2 BOURNS SMT; Database: 39125; Pkg Type: SMD; Modello: PTC; Note: Mantenimento=500mA - Scatto=1A - Max=40A; Caratteristiche: 500mA/6V; Price Distributor Cad: 0,079; Distributor: FAE; Famiglia: FUSIBILE
footprint FS-0603
pins: 1, 2

## PW-IHLP1212BZER1R0M11-1u/5A
designator L?, comment 1u/5A
INDUTTANZA 1uH 5A 20% D=3.65x3 IHLP1212BZER1R0M11 VISHAY SMT; ROOM: POWER 5V-3V3; Famiglia: INDUTTORE; Modello: POWER; Pkg Type: SMD; Temp Range: -55°..+125°; Database: 40059; Caratteristiche: 5A; Distributor: FAE; Price Distributor Cad: 0,36
footprint LS-VIIHLP1212BZ11
pins: 1, 2

## QUARZO-ABM8G-25.000MHz
designator Y?, comment 25MHz
QUARZO 25MHz 18pF 30ppm D=3.2x2.5 ABM8G-25.000MHZ-18-D2Y-T  SMT; Famiglia: CLOCK; Pkg Type: SMD; Database: 29658; ROOM: ETHERNET+HUB USB; Caratteristiche: 25MHz; Modello: QUARZO; Distributor: FAE; Price Distributor Cad: 0,1308
footprint Y-ABM8G
pins: 1, 2, 3, 4

## QUARZO-ABS05-32.768KHZ-T
designator Y?, comment ABS05-32.768KHZ-T
QUARZO 32.768KHz 12.5pF 20ppm D=1.6x1 ABS05-32.768KHZ-T ABRACON SMT; ROOM: RTC; Famiglia: CLOCK; Note: CL=12.5p; Database: 35135; Temp Range: -40°..+85°; Pkg Type: SMD; Caratteristiche: 32.768kHz; Modello: QUARZO; Price Distributor Cad: 0,41; Distributor: FAE
footprint Y-ABS05
pins: 1, 2

## RAPIDO - 0154003.DR - 3A/125V
designator F?, comment 0154003-DR
FUS.+PORTAFUS. 3A RAPIDO 0154003.DR LITTELFUSE SMT; ROOM: POWER IN; Caratteristiche: 3A/125V; Famiglia: FUSIBILE; Database: 31835; Pkg Type: SMD; Modello: RAPIDO; Price Distributor Cad: 0,34; Distributor: FAE
footprint F-LT154
pins: 1, 2

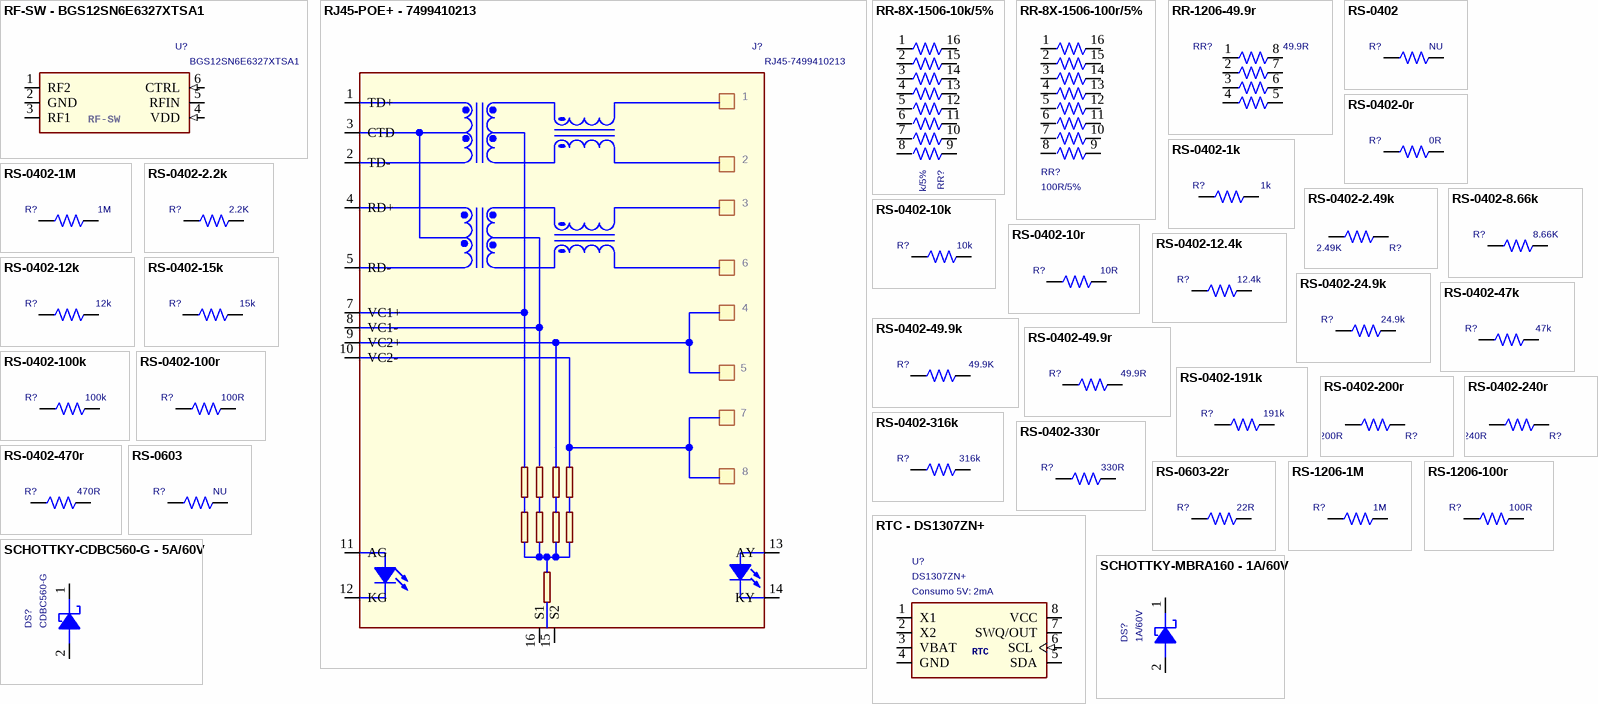
[diagram p2: symbols RF-SW - BGS12SN6E6327XTSA1 to SCHOTTKY-MBRA160 - 1A/60V]

## RF-SW - BGS12SN6E6327XTSA1
designator U?, comment BGS12SN6E6327XTSA1
INTEGRATO BGS12SN6E6327XTSA1 TSNP-6-2 INFINEON SMT; Pkg Type: SMD; Temp Range: -40°..+85°; Database: 41706; Caratteristiche: SPDT; Note: 100MHz to 6GHz; Modello: RF SWITCH; Consumo: Consumo xV: xmA; ROOM: WIFI-BLUETOOTH; Distributor: FAE; Price Distributor Cad: 0,0645; Famiglia: INTEGRATO
footprint XFDFN6
pins: 1 RF2 (io), 2 GND (power), 3 RF1 (io), 4 VDD (in), 5 RFIN (io), 6 CTRL (in)
text: RF-SW

## RJ45-POE+ - 7499410213
designator J?, comment RJ45-7499410213
CONN. RJ45 POE+ 8P F/90° C.S. CON LED 7499410213 WE; Temp Range: -40°..+85°; Pkg Type: THT; Note: Linguetta Giù; Famiglia: CONNETTORE; Database: 44449; Caratteristiche: POE+ 10/100; Price Distributor Cad: 8,76; Modello: RJ45; Distributor: FAE
footprint J-RJ45-7499410213
pins: 1 TD+, 2 TD-, 3 CTD, 4 RD+, 5 RD-, 7 VC1+, 8 VC1-, 9 VC2+, 10 VC2-, 11 AG, 12 KG, 13 AY, 14 KY, 15 S2, 16 S1
text: 6

## RR-8X-1506-10k/5%
designator RR?, comment 10k/5%
RETE RESISTIVA 8R sing. 10K 5% 1506 CAY16-103J8LF BOURNS SMT; ROOM: WIFI-BLUETOOTH; Note: 200ppm; Caratteristiche: 8X; Famiglia: RESISTENZA; Pkg Type: SMD; Temp Range: -55°..+125°; Database: 40063; Modello: RETE; Distributor: FAE; Price Distributor Cad: 0,037
footprint RR-8X-1506
pins: 1, 2, 3, 4, 5, 6, 7, 8, 9, 10, 11, 12, 13, 14, 15, 16

## RR-8X-1506-100r/5%
designator RR?, comment 100R/5%
RETE RESISTIVA 8R sing. 100R 5% 1506 CAY16-101J8LF BOURNS SMT; ROOM: MCU CONNECTOR; Note: 200ppm; Caratteristiche: 8X; Famiglia: RESISTENZA; Pkg Type: SMD; Temp Range: -55°..+125°; Database: 40062; Modello: RETE; Distributor: FAE; Price Distributor Cad: 0,036
footprint RR-8X-1506
pins: 1, 2, 3, 4, 5, 6, 7, 8, 9, 10, 11, 12, 13, 14, 15, 16

## RR-1206-49.9r
designator RR?, comment 49.9R
RETE RESISTIVA 4R sing. 49R9 1% 1206 CAY16 SMT; Database: 37230; Famiglia: RESISTENZA; Note: 4x; Pkg Type: SMD; ROOM: SWO MCU; Caratteristiche: 1%; Distributor: FAE; Modello: RETE; Price Distributor Cad: 0,288
footprint RR-1206
pins: 1, 2, 3, 4, 5, 6, 7, 8

## RS-0402
designator R?, comment NU
CHIP RES. 0402; Pkg Type: SMD; Famiglia: RESISTENZA; Modello: FISSO; ROOM: HUB-USB
footprint RS-0402
pins: 1, 2

## RS-0402-0r
designator R?, comment 0R
CHIP RES. 0R 0402 1/16W 1%; ROOM: CM3L; Modello: FISSO; Famiglia: RESISTENZA; Pkg Type: SMD; Database: 25681; Caratteristiche: 1%; Distributor: FAE; Price Distributor Cad: 0,0005
footprint RS-0402
pins: 1, 2

## RS-0402-1k
designator R?, comment 1k
CHIP RES. 1K 0402 1/16W 1%; Database: 25126; Pkg Type: SMD; Famiglia: RESISTENZA; Modello: FISSO; ROOM: POWER LED; Price Distributor Cad: 0,0009; Distributor: FAE; Caratteristiche: 1%
footprint RS-0402
pins: 1, 2

## RS-0402-1M
designator R?, comment 1M
CHIP RES. 1M 0402 1/16W 1%; ROOM: POWER 5V-3V3; Modello: FISSO; Famiglia: RESISTENZA; Database: 32464; Pkg Type: SMD; Caratteristiche: 1%; Price Distributor Cad: 0,0006; Distributor: FAE
footprint RS-0402
pins: 1, 2

## RS-0402-2.2k
designator R?, comment 2.2K
CHIP RES. 2K2 0402 1/16W 1%; ROOM: SWITCH-PW-5V; Modello: FISSO; Famiglia: RESISTENZA; Database: 35095; Pkg Type: SMD; Caratteristiche: 1%; Price Distributor Cad: 0,0009; Distributor: FAE
footprint RS-0402
pins: 1, 2

## RS-0402-2.49k
designator R?, comment 2.49K
CHIP RES. 2K49 0402 1/16W 1% 100PPM/°C; ROOM: CM3L; Modello: FISSO; Note: 100ppm; Famiglia: RESISTENZA; Database: 33473; Pkg Type: SMD; Caratteristiche: 1%; Price Distributor Cad: 0,0006; Distributor: FAE
footprint RS-0402
pins: 1, 2

## RS-0402-8.66k
designator R?, comment 8.66K
CHIP RES. 8K66 0402 1/16W 1% 100PPM/°C; ROOM: POWER 1V5; Modello: FISSO; Note: 100ppm; Famiglia: RESISTENZA; Pkg Type: SMD; Temp Range: -55°..+155°; Database: 40602; Caratteristiche: 1%; Distributor: FAE; Price Distributor Cad: 0,0004
footprint RS-0402
pins: 1, 2

## RS-0402-10k
designator R?, comment 10k
CHIP RES. 10K 0402 1/16W 1%; ROOM: HDMI; Modello: FISSO; Famiglia: RESISTENZA; Database: 25129; Temp Range: -55°..+125°; Pkg Type: SMD; Caratteristiche: 1%; Price Distributor Cad: 0,0007; Distributor: FAE
footprint RS-0402
pins: 1, 2

## RS-0402-10r
designator R?, comment 10R
CHIP RES. 10R 0402 1/16W 1% 100PPM/°C; Pkg Type: SMD; Temp Range: -55°..+125°; Database: 25130; Famiglia: RESISTENZA; Note: 100 ppm; Modello: FISSO; ROOM: ETHERNET+HUB USB; Distributor: FAE; Price Distributor Cad: 0,0004; Caratteristiche: 1%
footprint RS-0402
pins: 1, 2

## RS-0402-12.4k
designator R?, comment 12.4k
CHIP RES. 12K4 0402 1/16W 1% 100PPM/°C; ROOM: POWER 1V8; Modello: FISSO; Note: 100ppm; Famiglia: RESISTENZA; Database: 33444; Pkg Type: SMD; Caratteristiche: 1%; Price Distributor Cad: 0,0006; Distributor: FAE
footprint RS-0402
pins: 1, 2

## RS-0402-12k
designator R?, comment 12k
CHIP RES. 12K 0402 1/16W 1%; ROOM: ETHERNET+HUB USB; Modello: FISSO; Famiglia: RESISTENZA; Database: 39722; Pkg Type: SMD; Caratteristiche: 1%; Price Distributor Cad: 0,0004; Distributor: FAE
footprint RS-0402
pins: 1, 2

## RS-0402-15k
designator R?, comment 15k
CHIP RES. 15K 0402 1/16W 1%; Database: 40387; Temp Range: -55°..+155°; Pkg Type: SMD; Famiglia: RESISTENZA; Modello: FISSO; ROOM: POWER 5V-3V3; Price Distributor Cad: 0,0009; Distributor: FAE; Caratteristiche: 1%
footprint RS-0402
pins: 1, 2

## RS-0402-24.9k
designator R?, comment 24.9k
CHIP RES. 24K9 0402 1/16W 1%; ROOM: POWER 2V8; Modello: FISSO; Famiglia: RESISTENZA; Database: 25125; Pkg Type: SMD; Caratteristiche: 1%; Price Distributor Cad: 0,0006; Distributor: FAE
footprint RS-0402
pins: 1, 2

## RS-0402-47k
designator R?, comment 47k
CHIP RES. 47K 0402 1/16W 1% 100PPM/°C; Database: 33460; Pkg Type: SMD; Famiglia: RESISTENZA; Note: 100ppm; Modello: FISSO; ROOM: POWER 5V-3V3; Price Distributor Cad: 0,0004; Distributor: FAE; Caratteristiche: 1%
footprint RS-0402
pins: 1, 2

## RS-0402-49.9k
designator R?, comment 49.9K
CHIP RES. 49K9 0402 1/16W 1% 100PPM/°C; ROOM: eMMC; Modello: FISSO; Note: 100 ppm; Famiglia: RESISTENZA; Pkg Type: SMD; Temp Range: -55°..+155°; Database: 33469; Caratteristiche: 1%; Distributor: FAE; Price Distributor Cad: 0,0006
footprint RS-0402
pins: 1, 2

## RS-0402-49.9r
designator R?, comment 49.9R
CHIP RES. 49R9 0402 1/16W 1% 100PPM/°C; Database: 33459; Temp Range: -55°..+155°; Pkg Type: SMD; Famiglia: RESISTENZA; Note: 100 ppm; Modello: FISSO; ROOM: ETHERNET+HUB USB; Price Distributor Cad: 0,0006; Distributor: FAE; Caratteristiche: 1%
footprint RS-0402
pins: 1, 2

## RS-0402-100k
designator R?, comment 100k
CHIP RES. 100K 0402 1/16W 1%; Database: 25127; Pkg Type: SMD; Famiglia: RESISTENZA; Modello: FISSO; ROOM: CM3L; Price Distributor Cad: 0,0004; Distributor: FAE; Caratteristiche: 1%
footprint RS-0402
pins: 1, 2

## RS-0402-100r
designator R?, comment 100R
CHIP RES. 100R 0402 1/16W 1%; Database: 26315; Pkg Type: SMD; Famiglia: RESISTENZA; Modello: FISSO; ROOM: CAMERA CSI; Price Distributor Cad: 0,0007; Distributor: FAE; Caratteristiche: 1%
footprint RS-0402
pins: 1, 2

## RS-0402-191k
designator R?, comment 191k
CHIP RES. 191K 0402 1/16W 1%; Database: 39660; Pkg Type: SMD; Famiglia: RESISTENZA; Modello: FISSO; ROOM: POWER 5V-3V3; Price Distributor Cad: 0,0006; Distributor: FAE; Caratteristiche: 1%
footprint RS-0402
pins: 1, 2

## RS-0402-200r
designator R?, comment 200R
CHIP RES. 200R 0402 1/16W 1% 100PPM/°C; Pkg Type: SMD; Database: 33494; Famiglia: RESISTENZA; Note: 100ppm; Modello: FISSO; ROOM: LED RGB; Distributor: FAE; Price Distributor Cad: 0,0006; Caratteristiche: 1%
footprint RS-0402
pins: 1, 2

## RS-0402-240r
designator R?, comment 240R
CHIP RES. 240R 0402 1/16W 1% 100PPM/°C; Pkg Type: SMD; Temp Range: -55°..+125°; Database: 33484; Famiglia: RESISTENZA; Note: 100ppm; Modello: FISSO; ROOM: LED RGB; Distributor: FAE; Price Distributor Cad: 0,0006; Caratteristiche: 1%
footprint RS-0402
pins: 1, 2

## RS-0402-316k
designator R?, comment 316k
CHIP RES. 316K 0402 1/16W 1%; ROOM: POWER 5V-3V3; Modello: FISSO; Famiglia: RESISTENZA; Pkg Type: SMD; Database: 39662; Caratteristiche: 1%; Distributor: FAE; Price Distributor Cad: 0,0006
footprint RS-0402
pins: 1, 2

## RS-0402-330r
designator R?, comment 330R
CHIP RES. 330R 0402 1/16W 1%; Pkg Type: SMD; Database: 26311; Famiglia: RESISTENZA; Modello: FISSO; ROOM: mPCIE; Distributor: FAE; Price Distributor Cad: 0,0004; Caratteristiche: 1%
footprint RS-0402
pins: 1, 2

## RS-0402-470r
designator R?, comment 470R
CHIP RES. 470R 0402 1/16W 1%; Database: 25128; Pkg Type: SMD; Famiglia: RESISTENZA; Modello: FISSO; ROOM: CM3L; Price Distributor Cad: 0,0006; Distributor: FAE; Caratteristiche: 1%
footprint RS-0402
pins: 1, 2

## RS-0603
designator R?, comment NU
Resistenza 0603; Pkg Type: SMD; ROOM: SWITCH-PW-LED
footprint RS-0603
pins: 1, 2

## RS-0603-22r
designator R?, comment 22R
CHIP RES. 22R 0603 1/16W 1%; Pkg Type: SMD; Database: 20385; Famiglia: RESISTENZA; Modello: FISSO; ROOM: NANO-SIM; Distributor: FAE; Price Distributor Cad: 0,0012; Caratteristiche: 1%
footprint RS-0603
pins: 1, 2

## RS-1206-1M
designator R?, comment 1M
CHIP RES. 1M 1206 1/4W 1%; Database: 28883; Pkg Type: SMD; Modello: FISSO; Famiglia: RESISTENZA; ROOM: USB BOOT; Price Distributor Cad: 0,0023; Distributor: FAE; Caratteristiche: 1%
footprint RS-1206
pins: 1, 2

## RS-1206-100r
designator R?, comment 100R
CHIP RES. 100R 1206 1/4W 1%; Database: 14607; Pkg Type: SMD; Modello: FISSO; Famiglia: RESISTENZA; ROOM: SWITCH-PW-3V3; Price Distributor Cad: 0,0023; Distributor: FAE; Caratteristiche: 1%
footprint RS-1206
pins: 1, 2

## RTC - DS1307ZN+
designator U?, comment DS1307ZN+  Consumo: Consumo 5V: 2mA
INTEGRATO DS1307ZN+ MAXIM SOIC8 SMT; ROOM: RTC; Pkg Type: SMD; Temp Range: -40°..+85°; Database: 41053; Modello: RTC; Famiglia: INTEGRATO; Distributor: FAE; Price Distributor Cad: 0,36
footprint SOIC8
pins: 1 X1, 2 X2, 3 VBAT (power), 4 GND (power), 5 SDA (io), 6 SCL (in), 7 SWQ/OUT, 8 VCC (power)

## SCHOTTKY-CDBC560-G - 5A/60V
designator DS?, comment CDBC560-G
DIODO SCHOTTKY 5A 60V CDBC560-G DO214AB SMT; Pkg Type: SMD; Database: 35683; Caratteristiche: 5A/60V; ROOM: POWER IN; Distributor: FAE; Price Distributor Cad: 0,077; Famiglia: DIODO; Modello: SCHOTTKY
footprint SMC
pins: 1 C, 2 A

## SCHOTTKY-MBRA160 - 1A/60V
designator DS?, comment 1A/60V
DIODO SCHOTTKY 1A 60V MBRA160T3G SMA SMT; Database: 28016; Pkg Type: SMD; ROOM: POWER IN; Caratteristiche: 1A/60V; Distributor: FAE; Famiglia: DIODO; Modello: SCHOTTKY; Price Distributor Cad: 0,261
footprint SMA
pins: 1 C, 2 A

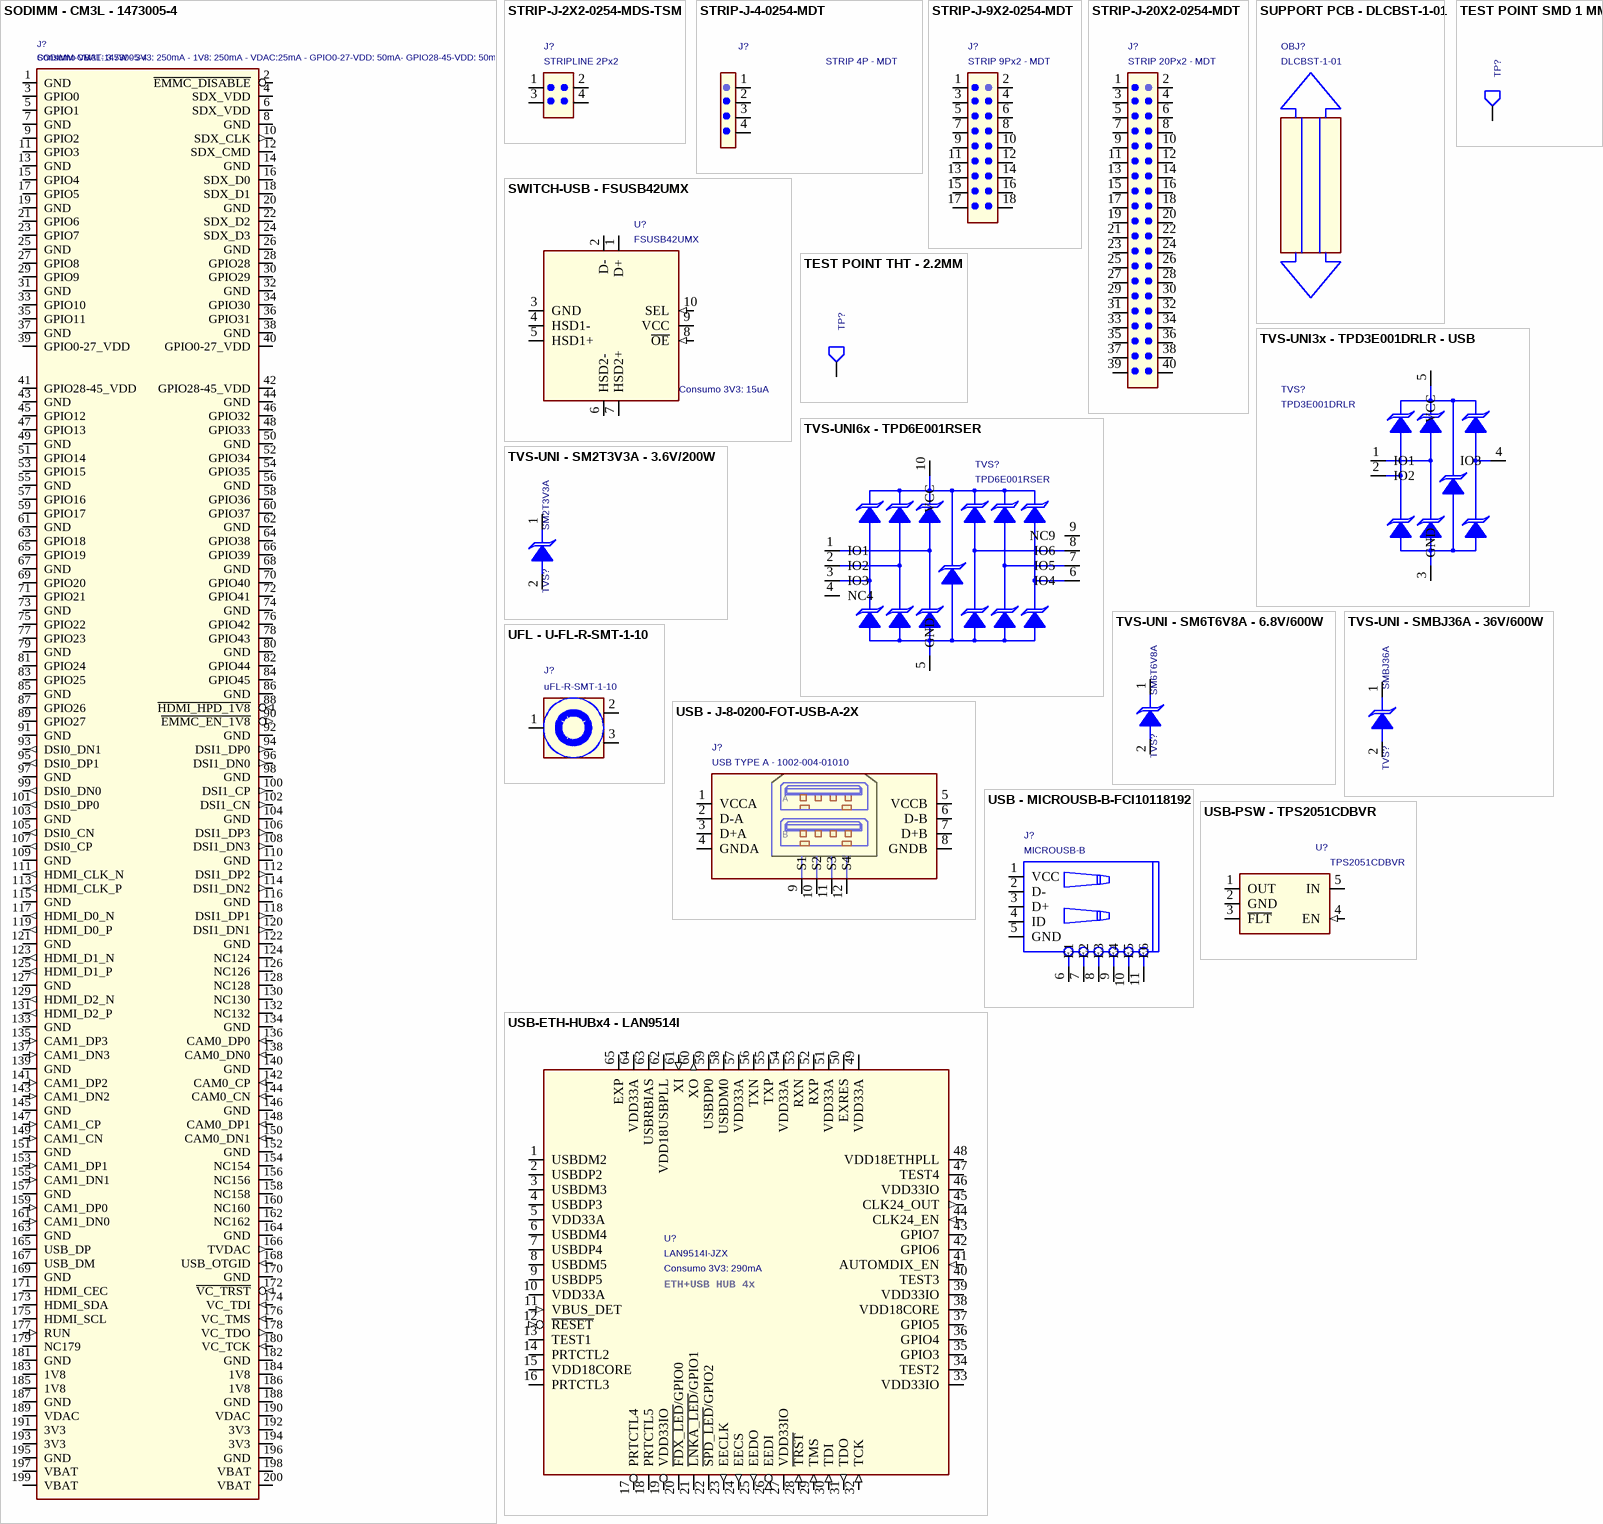
[diagram p3: symbols SODIMM - CM3L - 1473005-4 to USB-PSW - TPS2051CDBVR]

## SODIMM - CM3L - 1473005-4
designator J?, comment SODIMM-CM3L-1473005-4  Consumo: Consumo VBAT: 3.5W - 3V3: 250mA - 1V8: 250mA - VDAC:25mA - GPIO0-27-VDD: 50mA- GPIO28-45-VDD: 50mA - SDVDD:50mA
CONN. DDR2 200P M/D DOPPIA FILA DIMM 1473005-4 TYCO SMT; Pkg Type: SMD; Temp Range: -55°..+85°; Database: 27986; Famiglia: CONNETTORE; ROOM: CM3L; Distributor: FAE; Price Distributor Cad: 1,6; Caratteristiche: 200P; Modello: SODIMM-CM3L
footprint J-200-0060-MOS-1473005-4
pins: 1 GND (power), 2 ~{EMMC_DISABLE}, 3 GPIO0 (io), 4 SDX_VDD (power), 5 GPIO1 (io), 6 SDX_VDD (power), 7 GND (power), 8 GND (power), 9 GPIO2 (io), 10 SDX_CLK (out), 11 GPIO3 (io), 12 SDX_CMD (io), 13 GND (power), 14 GND (power), 15 GPIO4 (io), 16 SDX_D0 (io), 17 GPIO5 (io), 18 SDX_D1 (io), 19 GND (power), 20 GND (power), 21 GPIO6 (io), 22 SDX_D2 (io), 23 GPIO7 (io), 24 SDX_D3 (io), 25 GND (power), 26 GND (power), 27 GPIO8 (io), 28 GPIO28 (io), 29 GPIO9 (io), 30 GPIO29 (io), 31 GND (power), 32 GND (power), 33 GPIO10 (io), 34 GPIO30 (io), 35 GPIO11 (io), 36 GPIO31 (io), 37 GND (power), 38 GND (power), 39 GPIO0-27_VDD (power), 40 GPIO0-27_VDD (power), 41 GPIO28-45_VDD (power), 42 GPIO28-45_VDD (power), 43 GND (power), 44 GND (power), 45 GPIO12 (io), 46 GPIO32 (io), 47 GPIO13 (io), 48 GPIO33 (io), 49 GND (power), 50 GND (power), 51 GPIO14 (io), 52 GPIO34 (io), 53 GPIO15 (io), 54 GPIO35 (io), 55 GND (power), 56 GND (power), 57 GPIO16 (io), 58 GPIO36 (io), 59 GPIO17 (io), 60 GPIO37 (io), 61 GND (power), 62 GND (power), 63 GPIO18 (io), 64 GPIO38 (io), 65 GPIO19 (io), 66 GPIO39 (io), 67 GND (power), 68 GND (power), 69 GPIO20 (io), 70 GPIO40 (io), 71 GPIO21 (io), 72 GPIO41 (io), 73 GND (power), 74 GND (power), 75 GPIO22 (io), 76 GPIO42 (io), 77 GPIO23 (io), 78 GPIO43 (io), 79 GND (power), 80 GND (power), 81 GPIO24 (io), 82 GPIO44 (io), 83 GPIO25 (io), 84 GPIO45 (io), 85 GND (power), 86 GND (power), 87 GPIO26 (io), 88 ~{HDMI_HPD_1V8} (in), 89 GPIO27 (io), 90 ~{EMMC_EN_1V8} (out), 91 GND (power), 92 GND (power), 93 DSI0_DN1 (out), 94 DSI1_DP0 (out), 95 DSI0_DP1 (out), 96 DSI1_DN0 (out), 97 GND (power), 98 GND (power), 99 DSI0_DN0 (out), 100 DSI1_CP (out), 101 DSI0_DP0 (out), 102 DSI1_CN (out), 103 GND (power), 104 GND (power), 105 DSI0_CN (out), 106 DSI1_DP3 (out), 107 DSI0_CP (out), 108 DSI1_DN3 (out), 109 GND (power), 110 GND (power), 111 HDMI_CLK_N (out), 112 DSI1_DP2 (out), 113 HDMI_CLK_P (out), 114 DSI1_DN2 (out), 115 GND (power), 116 GND (power), 117 HDMI_D0_N (out), 118 DSI1_DP1 (out), 119 HDMI_D0_P (out), 120 DSI1_DN1 (out), 121 GND (power), 122 GND (power), 123 HDMI_D1_N (out), 124 NC124, 125 HDMI_D1_P (out), 126 NC126, 127 GND (power), 128 NC128, 129 HDMI_D2_N (out), 130 NC130, 131 HDMI_D2_P (out), 132 NC132, 133 GND (power), 134 GND (power), 135 CAM1_DP3 (in), 136 CAM0_DP0 (in), 137 CAM1_DN3 (in), 138 CAM0_DN0 (in), 139 GND (power), 140 GND (power), 141 CAM1_DP2 (in), 142 CAM0_CP (in), 143 CAM1_DN2 (in), 144 CAM0_CN (in), 145 GND (power), 146 GND (power), 147 CAM1_CP (in), 148 CAM0_DP1 (in), 149 CAM1_CN (in), 150 CAM0_DN1 (in), 151 GND (power), 152 GND (power), 153 CAM1_DP1 (in), 154 NC154, 155 CAM1_DN1 (in), 156 NC156, 157 GND (power), 158 NC158, 159 CAM1_DP0 (in), 160 NC160, 161 CAM1_DN0 (in), 162 NC162, 163 GND (power), 164 GND (power), 165 USB_DP (io), 166 TVDAC (out), 167 USB_DM (io), 168 USB_OTGID (in), 169 GND (power), 170 GND (power), 171 HDMI_CEC (io), 172 ~{VC_TRST} (in), 173 HDMI_SDA (io), 174 VC_TDI (in), 175 HDMI_SCL (io), 176 VC_TMS (in), 177 RUN (in), 178 VC_TDO (out), 179 NC179, 180 VC_TCK (in), 181 GND (power), 182 GND (power), 183 1V8 (power), 184 1V8 (power), 185 1V8 (power), 186 1V8 (power), 187 GND (power), 188 GND (power), 189 VDAC (power), 190 VDAC (power), 191 3V3 (power), 192 3V3 (power), 193 3V3 (power), 194 3V3 (power), 195 GND (power), 196 GND (power), 197 VBAT (power), 198 VBAT (power), 199 VBAT (power), 200 VBAT (power)

## STRIP-J-2X2-0254-MDS-TSM
designator J?, comment STRIPLINE 2Px2
STRIP 4P M/D DOPPIA FILA P=2.54 TSM-102-01-T-DV SAMTEC SMT; Caratteristiche: 2x2P; Database: 44008; Famiglia: CONNETTORE; Note: H=9.61mm; Pkg Type: SMD; Temp Range: -55°..+105°; Distributor: FAE; Modello: STRIP; Price Distributor Cad: 0,108
footprint J-2X2-0254-MDT-TSM
pins: 1, 2, 3, 4

## STRIP-J-4-0254-MDT
designator J?, comment STRIP 4P - MDT
STRIP 1P M/D P=2.54 CH3140V100; Famiglia: CONNETTORE; Pkg Type: THT; Database: 1687; Caratteristiche: 4P; Modello: STRIP; Distributor: FAE; Price Distributor Cad: 0,004
footprint J-4-0254-MDT
pins: 1, 2, 3, 4

## STRIP-J-9X2-0254-MDT
designator J?, comment STRIP 9Px2 - MDT
STRIP 2P M/D DOPPIA FILA P=2.54 DORATO CH81802V100; Pkg Type: THT; Database: 1688; ROOM: MCU CONNECTOR; Distributor: FAE; Price Distributor Cad: 0,009
footprint J-9X2-0254-MDT
pins: 1, 2, 3, 4, 5, 6, 7, 8, 9, 10, 11, 12, 13, 14, 15, 16, 17, 18

## STRIP-J-20X2-0254-MDT
designator J?, comment STRIP 20Px2 - MDT
STRIP 40P M/D DOPPIA FILA P=2.54 H=8.5mm COLORAZIONE HAT PZX20180117132 RESIN; ROOM: CONNETTORE HAT; Caratteristiche: 20x2P; Famiglia: CONNETTORE; Pkg Type: THT; Database: 43116; Modello: STRIP; Note: H=8.5mm; Distributor: FAE; Price Distributor Cad: 0
footprint J-20X2-0254-MDT
pins: 1, 2, 3, 4, 5, 6, 7, 8, 9, 10, 11, 12, 13, 14, 15, 16, 17, 18, 19, 20, 21, 22, 23, 24, 25, 26, 27, 28, 29, 30, 31, 32, 33, 34, 35, 36, 37, 38, 39, 40

## SUPPORT PCB - DLCBST-1-01
designator OBJ?, comment DLCBST-1-01  (mechanical)
SUPPORTO CIL. NYLON H=1.6mm ø=2.54 DLCBST-1-01 RICHCO; Famiglia: MECCANICA; Caratteristiche: D2.5; Note: FORO D=2.54mm; Database: 41821; Pkg Type: THT; Modello: SUPPORTO; Price Distributor Cad: 0,129; Distributor: FAE

## SWITCH-USB - FSUSB42UMX
designator U?, comment FSUSB42UMX  Consumo: Consumo 3V3: 15uA
INTEGRATO FSUSB42UMX FAIRCHILD UMLP10 SMT; ROOM: SWITCH USB; Modello: USB-SWITCH; Caratteristiche: 2x; Pkg Type: SMD; Temp Range: -40°..+85°; Database: 40609; Famiglia: INTEGRATO; Distributor: FAE; Price Distributor Cad: 0,115
footprint UMLP10
pins: 1 D+ (io), 2 D- (io), 3 GND (power), 4 HSD1- (io), 5 HSD1+ (io), 6 HSD2- (io), 7 HSD2+ (io), 8 ~{OE} (in), 9 VCC (power), 10 SEL (in)

## TEST POINT SMD 1 MM
designator TP?, comment TPS  (value not drawn)
TEST POINT SMD; Pkg Type: SMD; Distributor: FAE
footprint TPS-0100
pins: 1 TP

## TEST POINT THT - 2.2MM
designator TP?, comment TPT  (value not drawn)
TEST POINT X SONDA OCCH NERO 20-2137 VERO; Database: 23333; Pkg Type: THT; ROOM: POWER IN; Price Distributor Cad: 0,065; Distributor: FAE
footprint TPT-0100
pins: 1 TP

## TVS-UNI3x - TPD3E001DRLR - USB
designator TVS?, comment TPD3E001DRLR
INTEGRATO TPD3E001DRLR TEXAS SOP5 SMT; Famiglia: PROTEZIONE; Caratteristiche: 5.5A/5V/90W; Note: Unidirezionale - High-Speed Data Interface - USB; Modello: TVS; Database: 29654; Temp Range: -40°..+85°; Pkg Type: SMD; ROOM: USB HOST 1; Price Distributor Cad: 0,1; Distributor: FAE
footprint SOP5
pins: 1 IO1, 2 IO2, 3 GND (power), 4 IO3, 5 VCC

## TVS-UNI6x - TPD6E001RSER
designator TVS?, comment TPD6E001RSER
INTEGRATO TPD6E001RSER TEXAS UQFN10 SMT; ROOM: CAMERA CSI; Database: 39338; Temp Range: -40°..+85°; Pkg Type: SMD; Modello: TVS; Note: Unidirezionale - 6x - High-Speed Data Interface  I/O; Caratteristiche: 5V; Famiglia: PROTEZIONE; Price Distributor Cad: 0,1; Distributor: FAE
footprint UFQFN10
pins: 1 IO1, 2 IO2, 3 IO3, 4 NC4, 5 GND (power), 6 IO4, 7 IO5, 8 IO6, 9 NC9, 10 VCC

## TVS-UNI - SM2T3V3A - 3.6V/200W
designator TVS?, comment SM2T3V3A
DIODO TVS TRANSIL UNDIR. 200W 3.6V SM2T3V3A DO216AA SMT; Note: Unidirezionale; Caratteristiche: 30A/3.6V/200W; Famiglia: PROTEZIONE; Pkg Type: SMD; Database: 38895; ROOM: CONNETTORE HAT; Modello: TVS; Distributor: FAE; Price Distributor Cad: 0,132
footprint D-DO216AA
pins: 1 C, 2 A

## TVS-UNI - SM6T6V8A - 6.8V/600W
designator TVS?, comment SM6T6V8A
DIODO TVS TRANSIL UNIDIR. 600W 6.8V SM6T6V8A SMB SMT; Pkg Type: SMD; Database: 14165; Note: Unidirezionale; Caratteristiche: 57A/6.8V/600W; Famiglia: PROTEZIONE; ROOM: CONNETTORE HAT; Distributor: FAE; Price Distributor Cad: 0,036; Modello: TVS
footprint SMB
pins: 1 C, 2 A

## TVS-UNI - SMBJ36A - 36V/600W
designator TVS?, comment SMBJ36A
DIODO TVS TRANSIL UNIDIR. 600W 36V SMBJ36A SMB SMT; ROOM: POWER IN; Database: 39339; Pkg Type: SMD; Famiglia: PROTEZIONE; Caratteristiche: 10.4A/36V/600W; Note: Unidirezionale; Price Distributor Cad: 0,0335; VERIFIED: -55°..+150°; Distributor: FAE; Modello: TVS
footprint SMB
pins: 1 C, 2 A

## UFL - U-FL-R-SMT-1-10
designator J?, comment uFL-R-SMT-1-10
CONN. RF M U.FL-R-SMT-1(10) HIROSE SMT; Pkg Type: SMD; Temp Range: -40°..+90°; Database: 28096; Famiglia: CONNETTORE; Note: 50ohm; Modello: UFL; ROOM: WIFI-BLUETOOTH; Distributor: FAE; Price Distributor Cad: 0,105; Caratteristiche: RF
footprint J-3-MDS-UFL
pins: 1, 2, 3

## USB - J-8-0200-FOT-USB-A-2X
designator J?, comment USB TYPE A - 1002-004-01010
CONN. USB F/90° TIPO A DOPPIO C.S. 1002-004-01010 CNC TECH; Famiglia: CONNETTORE; Caratteristiche: 2X-TYPE-A; Pkg Type: THT; Temp Range: -55°..+85°; Database: 40593; ROOM: USB HOST 1; Modello: USB; Distributor: FAE; Price Distributor Cad: 0,405
footprint J-8-0200-FOT-USB-A-2X
pins: 1 VCCA (power), 2 D-A (io), 3 D+A (io), 4 GNDA (power), 5 VCCB (power), 6 D-B (io), 7 D+B (io), 8 GNDB (power), 9 S1, 10 S2, 11 S3, 12 S4
text: A; B

## USB - MICROUSB-B-FCI10118192
designator J?, comment MICROUSB-B
CONN. USB F/90° TIPO MICRO-B C.S. 10118192-0001LF FCI SMT; Database: 40056; Temp Range: -30°..+85°; Pkg Type: SMD; Famiglia: CONNETTORE; Note: Full SMD; ROOM: USB BOOT; Price Distributor Cad: 0,097; Distributor: FAE; Modello: MICROUSB
footprint J-5-0065-FOS-MICROUSB10118192
pins: 1 VCC (power), 2 D- (io), 3 D+ (io), 4 ID, 5 GND (power), 6 E1, 7 E2, 8 E3, 9 E4, 10 E5, 11 E6

## USB-ETH-HUBx4 - LAN9514I
designator U?, comment LAN9514I-JZX  Consumo: Consumo 3V3: 290mA
INTEGRATO LAN9514I-JZX MICROCHIP 64QFN SMT; Temp Range: -40°..+85°; Pkg Type: SMD; Note: USB 2.0 + ETH 10/100; Modello: USB-HUB-ETH; Database: 44448; Caratteristiche: 4x; Price Distributor Cad: 6,85; Famiglia: INTEGRATO; Distributor: FAE
footprint IC-LAN9514
pins: 1 USBDM2 (io), 2 USBDP2 (io), 3 USBDM3 (io), 4 USBDP3 (io), 5 VDD33A (power), 6 USBDM4 (io), 7 USBDP4 (io), 8 USBDM5 (io), 9 USBDP5 (io), 10 VDD33A (power), 11 VBUS_DET (in), 12 ~{RESET} (in), 13 TEST1, 14 PRTCTL2, 15 VDD18CORE (power), 16 PRTCTL3, 17 PRTCTL4, 18 PRTCTL5, 19 VDD33IO (power), 20 ~{FDX_LED}/GPIO0, 21 ~{LNKA_LED}/GPIO1, 22 ~{SPD_LED}/GPIO2, 23 EECLK (out), 24 EECS (out), 25 EEDO (out), 26 EEDI (in), 27 VDD33IO (power), 28 ~{TRST} (in), 29 TMS (in), 30 TDI (in), 31 TDO (out), 32 TCK (in), 33 VDD33IO (power), 34 TEST2, 35 GPIO3 (io), 36 GPIO4 (io), 37 GPIO5 (io), 38 VDD18CORE (power), 39 VDD33IO (power), 40 TEST3, 41 AUTOMDIX_EN (in), 42 GPIO6 (io), 43 GPIO7 (io), 44 CLK24_EN (in), 45 CLK24_OUT (out), 46 VDD33IO (power), 47 TEST4, 48 VDD18ETHPLL (power), 49 VDD33A (power), 50 EXRES, 51 VDD33A (power), 52 RXP (io), 53 RXN (io), 54 VDD33A (power), 55 TXP (io), 56 TXN (io), 57 VDD33A (power), 58 USBDM0 (io), 59 USBDP0 (io), 60 XO (out), 61 XI (in), 62 VDD18USBPLL (power), 63 USBRBIAS, 64 VDD33A (power), 65 EXP
text: ETH+USB HUB 4x

## USB-PSW - TPS2051CDBVR
designator U?, comment TPS2051CDBVR
INTEGRATO TPS2051CDBVR TEXAS SOT23-5 SMT; ROOM: USB HOST 1; Database: 39343; Temp Range: -40°..+125°; Pkg Type: SMD; Modello: POWER SWITCH; Note: Active High EN; Caratteristiche: 500mA; Price Distributor Cad: 0,081; Distributor: FAE; Famiglia: INTEGRATO
footprint SOT23-5
pins: 1 OUT (power), 2 GND (power), 3 ~{FLT} (oc), 4 EN (in), 5 IN (power)

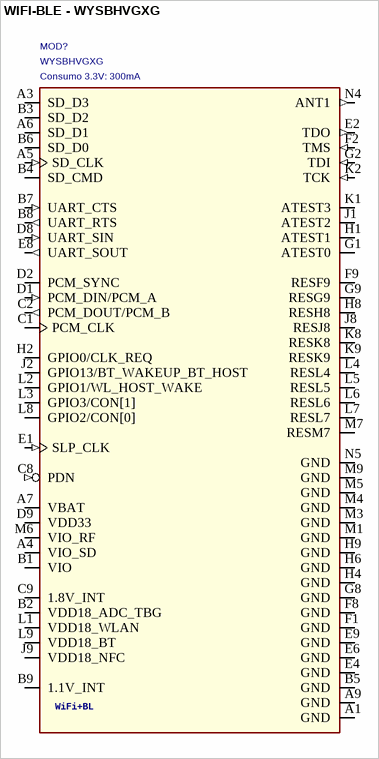
[diagram p4: symbol WIFI-BLE - WYSBHVGXG]